# Altium schematic symbol library CHXXX.schlib: 635 symbols (part 5 of 9)
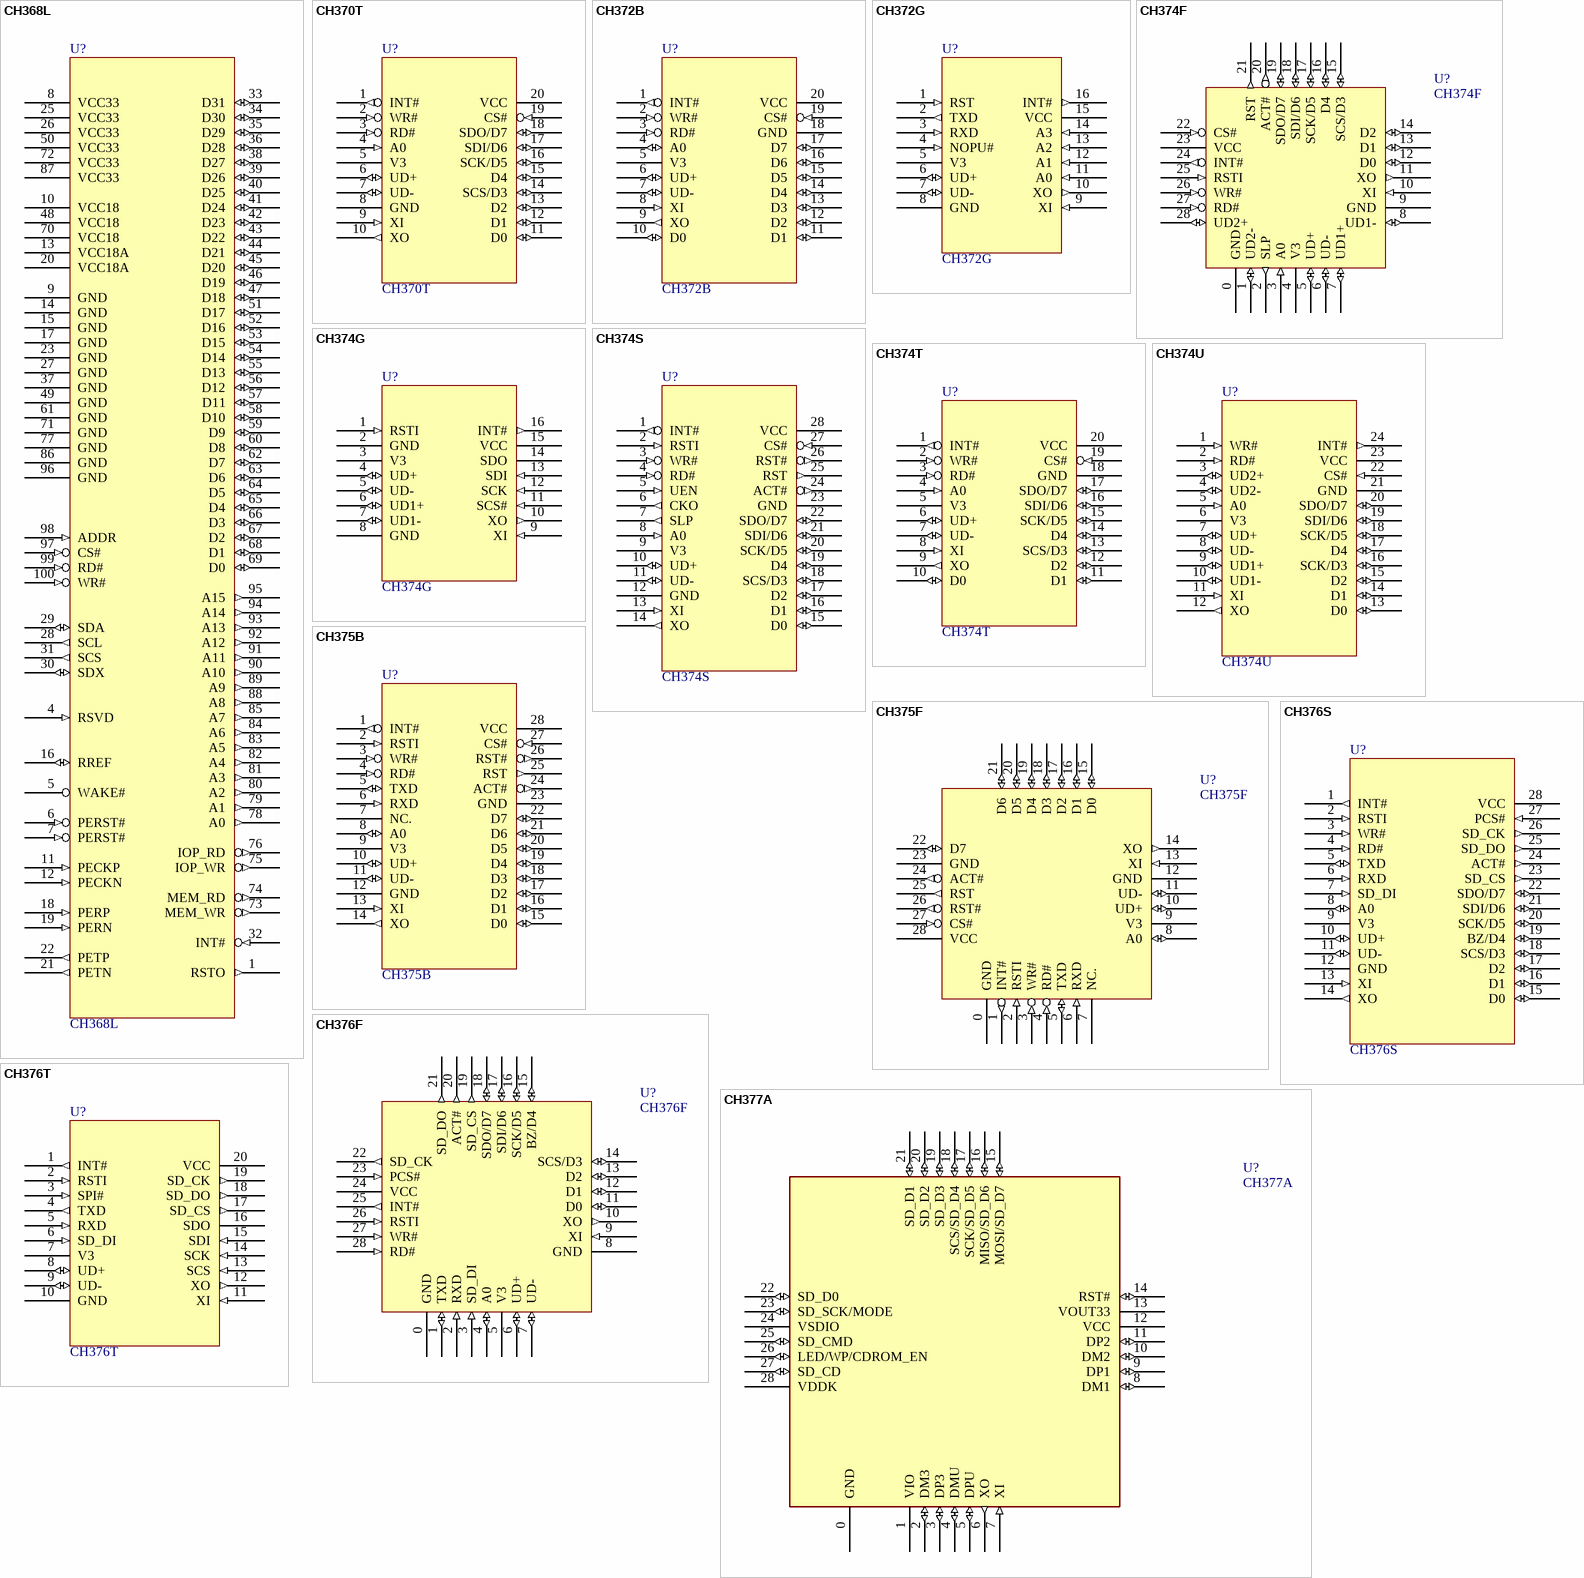
[diagram p90: symbols CH368L to CH377A]

## CH374F
designator U?
USB Host & Device / Slave for MCU, parallel / SPI, Embed 3 Hub
footprint QFN28_4X4
pins: 0 GND (power), 1 UD2- (io), 2 SLP (out), 3 A0 (in), 4 V3 (power), 5 UD+ (io), 6 UD- (io), 7 UD1+ (io), 8 UD1- (io), 9 GND (power), 10 XI (in), 11 XO (out), 12 D0 (io), 13 D1 (io), 14 D2 (io), 15 SCS/D3 (io), 16 D4 (io), 17 SCK/D5 (io), 18 SDI/D6 (io), 19 SDO/D7 (io), 20 ACT# (out), 21 RST (out), 22 CS# (in), 23 VCC (power), 24 INT# (out), 25 RSTI (in), 26 WR# (in), 27 RD# (in), 28 UD2+ (io)

## CH374G
designator U?
USB Host & Device / Slave for MCU, SPI
footprint SOP16
pins: 1 RSTI (in), 2 GND (power), 3 V3 (power), 4 UD+ (io), 5 UD- (io), 6 UD1+ (io), 7 UD1- (io), 8 GND (power), 9 XI (in), 10 XO (out), 11 SCS# (in), 12 SCK (in), 13 SDI (in), 14 SDO (hiz), 15 VCC (power), 16 INT# (out)

## CH374S
designator U?
USB Host & Device / Slave for MCU, parallel / SPI
footprint SOP28
footprint DIP28
pins: 1 INT# (out), 2 RSTI (in), 3 WR# (in), 4 RD# (in), 5 UEN (in), 6 CKO (out), 7 SLP (out), 8 A0 (in), 9 V3 (power), 10 UD+ (io), 11 UD- (io), 12 GND (power), 13 XI (in), 14 XO (out), 15 D0 (io), 16 D1 (io), 17 D2 (io), 18 SCS/D3 (io), 19 D4 (io), 20 SCK/D5 (io), 21 SDI/D6 (io), 22 SDO/D7 (io), 23 GND (power), 24 ACT# (out), 25 RST (out), 26 RST# (out), 27 CS# (in), 28 VCC (power)

## CH374T
designator U?
USB Host & Device / Slave for MCU, parallel / SPI
footprint SSOP20
pins: 1 INT# (out), 2 WR# (in), 3 RD# (in), 4 A0 (in), 5 V3 (power), 6 UD+ (io), 7 UD- (io), 8 XI (in), 9 XO (out), 10 D0 (io), 11 D1 (io), 12 D2 (io), 13 SCS/D3 (io), 14 D4 (io), 15 SCK/D5 (io), 16 SDI/D6 (io), 17 SDO/D7 (io), 18 GND (power), 19 CS# (in), 20 VCC (power)

## CH374U
designator U?
USB Host & Device / Slave for MCU, parallel / SPI, Embed 3 Hub
footprint SSOP24
pins: 1 WR# (in), 2 RD# (in), 3 UD2+ (io), 4 UD2- (io), 5 A0 (in), 6 V3 (power), 7 UD+ (io), 8 UD- (io), 9 UD1+ (io), 10 UD1- (io), 11 XI (in), 12 XO (out), 13 D0 (io), 14 D1 (io), 15 D2 (io), 16 SCK/D3 (io), 17 D4 (io), 18 SCK/D5 (io), 19 SDI/D6 (io), 20 SDO/D7 (io), 21 GND (power), 22 CS# (in), 23 VCC (power), 24 INT# (out)

## CH375B
designator U?
USB Host & Device / Slave for MCU, parallel / UART Serial
footprint SOP28
footprint TSSOP28
footprint DIP28
pins: 1 INT# (out), 2 RSTI (in), 3 WR# (in), 4 RD# (in), 5 TXD (io), 6 RXD (in), 7 NC., 8 A0 (io), 9 V3 (power), 10 UD+ (io), 11 UD- (io), 12 GND (power), 13 XI (in), 14 XO (out), 15 D0 (io), 16 D1 (io), 17 D2 (io), 18 D3 (io), 19 D4 (io), 20 D5 (io), 21 D6 (io), 22 D7 (io), 23 GND (power), 24 ACT# (out), 25 RST (out), 26 RST# (out), 27 CS# (in), 28 VCC (power)

## CH375F
designator U?
USB Host & Device / Slave for MCU, parallel / UART Serial
footprint QFN28_4X4
pins: 0 GND (power), 1 INT# (out), 2 RSTI (in), 3 WR# (in), 4 RD# (in), 5 TXD (io), 6 RXD (in), 7 NC., 8 A0 (io), 9 V3 (power), 10 UD+ (io), 11 UD- (io), 12 GND (power), 13 XI (in), 14 XO (out), 15 D0 (io), 16 D1 (io), 17 D2 (io), 18 D3 (io), 19 D4 (io), 20 D5 (io), 21 D6 (io), 22 D7 (io), 23 GND (power), 24 ACT# (out), 25 RST (out), 26 RST# (out), 27 CS# (in), 28 VCC (power)

## CH376F
designator U?
USB Host and SD card Host with File System & USB Device for MCU, parallel / SPI / UART Serial
footprint QFN28_4X4
pins: 0 GND (power), 1 TXD (io), 2 RXD (in), 3 SD_DI (in), 4 A0 (io), 5 V3 (power), 6 UD+ (io), 7 UD- (io), 8 GND (power), 9 XI (in), 10 XO (out), 11 D0 (io), 12 D1 (io), 13 D2 (io), 14 SCS/D3 (io), 15 BZ/D4 (io), 16 SCK/D5 (io), 17 SDI/D6 (io), 18 SDO/D7 (io), 19 SD_CS (out), 20 ACT# (out), 21 SD_DO (out), 22 SD_CK (out), 23 PCS# (in), 24 VCC (power), 25 INT# (out), 26 RSTI (in), 27 WR# (in), 28 RD# (in)

## CH376S
designator U?
USB Host and SD card Host with File System & USB Device for MCU, parallel / SPI / UART Serial
footprint SOP28
footprint DIP28
pins: 1 INT# (out), 2 RSTI (in), 3 WR# (in), 4 RD# (in), 5 TXD (io), 6 RXD (in), 7 SD_DI (in), 8 A0 (io), 9 V3 (power), 10 UD+ (io), 11 UD- (io), 12 GND (power), 13 XI (in), 14 XO (out), 15 D0 (io), 16 D1 (io), 17 D2 (io), 18 SCS/D3 (io), 19 BZ/D4 (io), 20 SCK/D5 (io), 21 SDI/D6 (io), 22 SDO/D7 (io), 23 SD_CS (out), 24 ACT# (out), 25 SD_DO (out), 26 SD_CK (out), 27 PCS# (in), 28 VCC (power)

## CH376T
designator U?
USB Host and SD card Host with File System & USB Device for MCU, SPI / UART Serial
footprint SSOP20
pins: 1 INT# (out), 2 RSTI (in), 3 SPI# (in), 4 TXD (out), 5 RXD (in), 6 SD_DI (in), 7 V3 (power), 8 UD+ (io), 9 UD- (io), 10 GND (power), 11 XI (in), 12 XO (out), 13 SCS (in), 14 SCK (in), 15 SDI (in), 16 SDO (hiz), 17 SD_CS (out), 18 SD_DO (out), 19 SD_CK (out), 20 VCC (power)

## CH377A
designator U?
USB SD card Reader & 3 ports USB 2.0 HS Hub
footprint QFN28_4X4 (Footprint not found)
pins: 0 GND (power), 1 VIO (power), 2 DM3 (io), 3 DP3 (io), 4 DMU (io), 5 DPU (io), 6 XO (out), 7 XI (in), 8 DM1 (io), 9 DP1 (io), 10 DM2 (io), 11 DP2 (io), 12 VCC (power), 13 VOUT33 (power), 14 RST# (io), 15 MOSI/SD_D7 (io), 16 MISO/SD_D6 (io), 17 SCK/SD_D5 (io), 18 SCS/SD_D4 (io), 19 SD_D3 (io), 20 SD_D2 (io), 21 SD_D1 (io), 22 SD_D0 (io), 23 SD_SCK/MODE (io), 24 VSDIO (power), 25 SD_CMD (io), 26 LED/WP/CDROM_EN (io), 27 SD_CD (io), 28 VDDK (power)

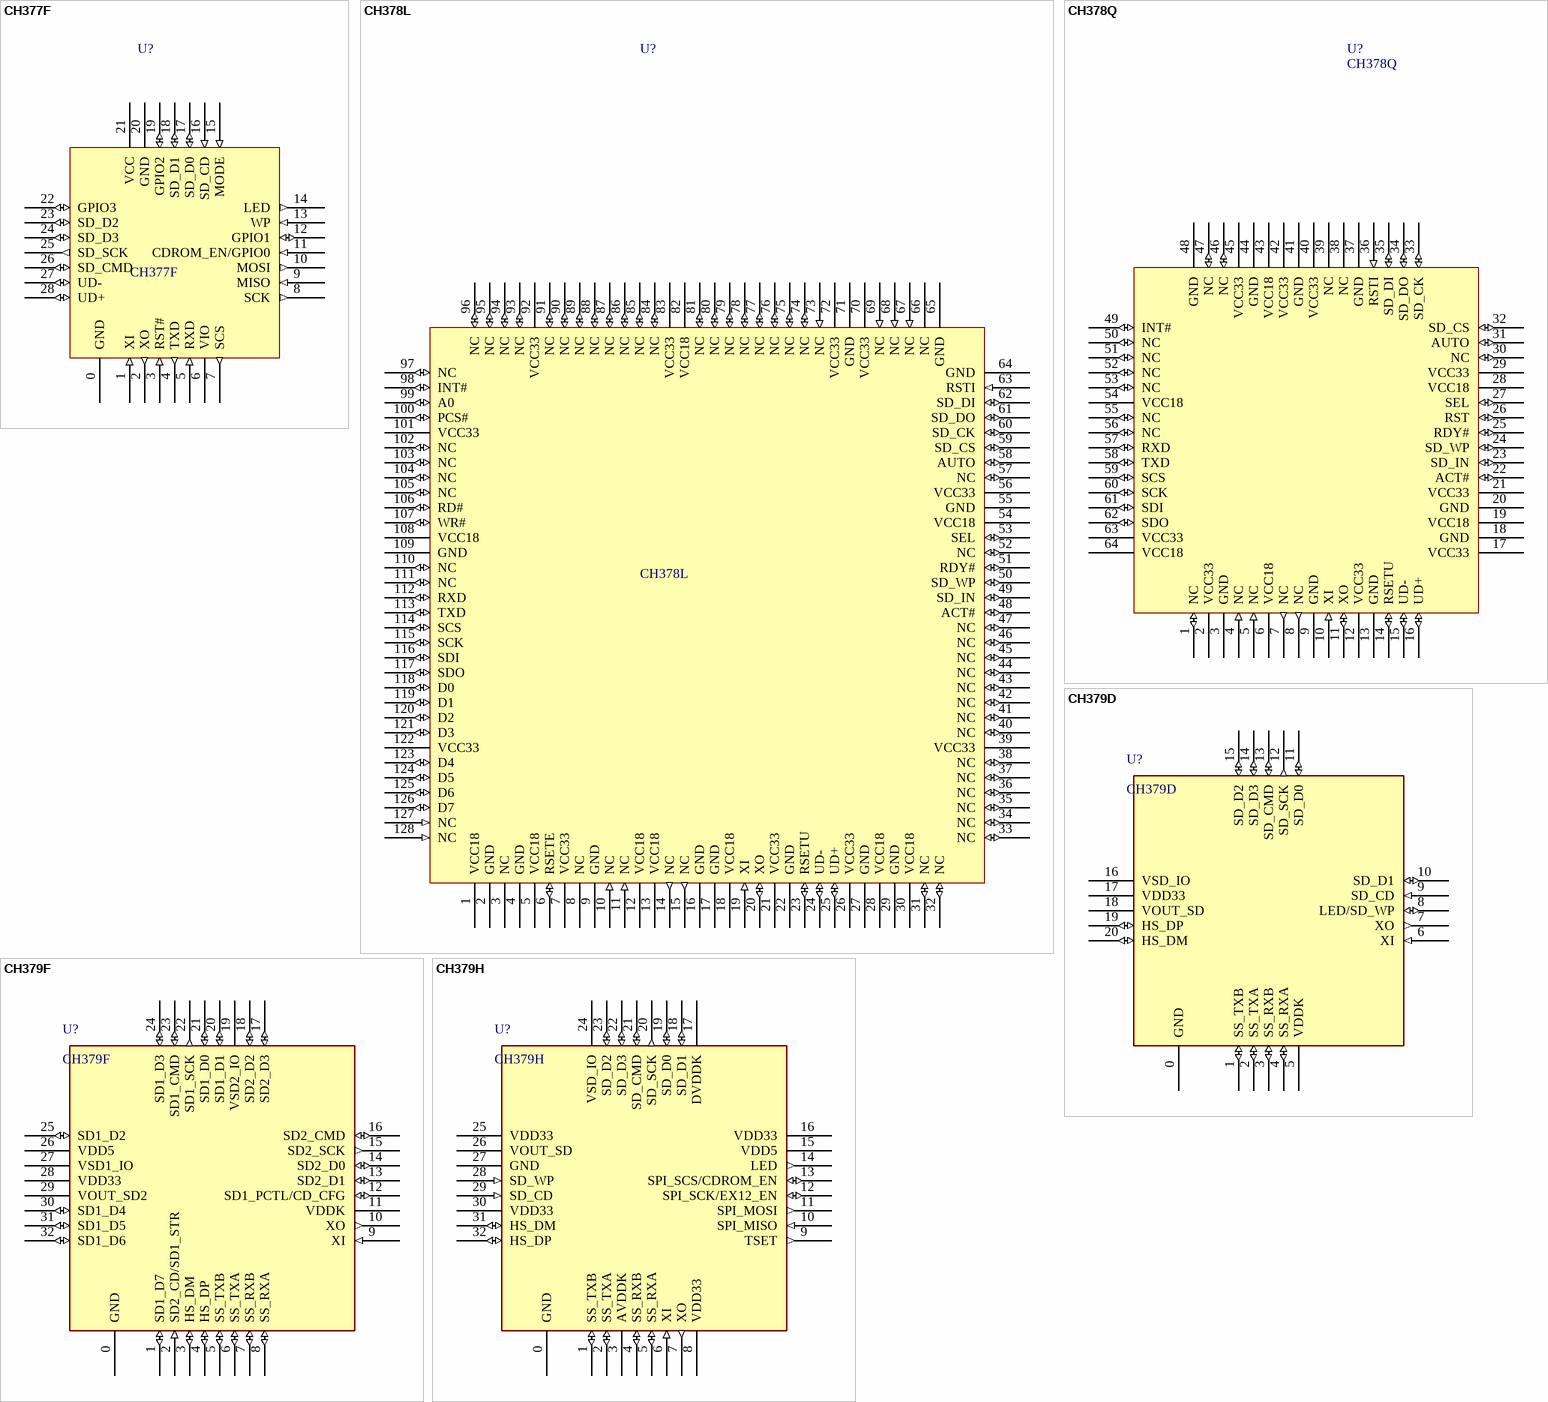
[diagram p37: symbols CH377F to CH379H]

## CH377F
designator U?
USB SD card Reader
footprint QFN28_4X4
pins: 0 GND (power), 1 XI (in), 2 XO (out), 3 RST# (in), 4 TXD (out), 5 RXD (in), 6 VIO (power), 7 SCS (out), 8 SCK (out), 9 MISO (in), 10 MOSI (out), 11 CDROM_EN/GPIO0 (in), 12 GPIO1 (io), 13 WP (in), 14 LED (out), 15 MODE (in), 16 SD_CD (in), 17 SD_D0 (io), 18 SD_D1 (io), 19 GPIO2 (io), 20 GND (power), 21 VCC (power), 22 GPIO3 (io), 23 SD_D2 (io), 24 SD_D3 (io), 25 SD_SCK (out), 26 SD_CMD (io), 27 UD- (io), 28 UD+ (io)

## CH378L
designator U?
USB2.0 Host with File System & USB Device for MCU, parallel / SPI / UART Serial
footprint LQFP128
pins: 1 VCC18 (power), 2 GND (power), 3 NC, 4 GND (power), 5 VCC18 (power), 6 RSETE (io), 7 VCC33 (power), 8 NC, 9 GND (power), 10 NC (in), 11 NC (in), 12 VCC18 (power), 13 VCC18 (power), 14 NC (out), 15 NC (out), 16 GND (power), 17 GND (power), 18 VCC18 (power), 19 XI (in), 20 XO (io), 21 VCC33 (power), 22 GND (power), 23 RSETU (io), 24 UD- (io), 25 UD+ (io), 26 VCC33 (power), 27 GND (power), 28 VCC18 (power), 29 GND (power), 30 VCC18 (power), 31 NC (io), 32 NC (io), 33 NC (io), 34 NC (io), 35 NC (io), 36 NC (io), 37 NC (io), 38 NC (io), 39 VCC33 (power), 40 NC (io), 41 NC (io), 42 NC (io), 43 NC (io), 44 NC (io), 45 NC (io), 46 NC (io), 47 NC (io), 48 ACT# (io), 49 SD_IN (io), 50 SD_WP (io), 51 RDY# (io), 52 NC (io), 53 SEL (io), 54 VCC18 (power), 55 GND (power), 56 VCC33 (power), 57 NC (io), 58 AUTO (io), 59 SD_CS (io), 60 SD_CK (io), 61 SD_DO (io), 62 SD_DI (io), 63 RSTI (in), 64 GND (power), 65 GND (power), 66 NC (power), 67 NC (in), 68 NC (in), 69 NC (in), 70 VCC33 (power), 71 GND (power), 72 VCC33 (power), 73 NC (in), 74 NC (io), 75 NC (io), 76 NC (io), 77 NC (io), 78 NC (io), 79 NC (io), 80 NC (io), 81 NC (io), 82 VCC18 (power), 83 VCC33 (power), 84 NC (io), 85 NC (io), 86 NC (io), 87 NC (io), 88 NC (io), 89 NC (io), 90 NC (io), 91 NC (io), 92 VCC33 (power), 93 NC (io), 94 NC (io), 95 NC (io), 96 NC (io), 97 NC (io), 98 INT# (io), 99 A0 (io), 100 PCS# (io), 101 VCC33 (power), 102 NC (io), 103 NC (io), 104 NC (io), 105 NC (io), 106 RD# (io), 107 WR# (io), 108 VCC18 (power), 109 GND (power), 110 NC (io), 111 NC (io), 112 RXD (io), 113 TXD (io), 114 SCS (io), 115 SCK (io), 116 SDI (io), 117 SDO (io), 118 D0 (io), 119 D1 (io), 120 D2 (io), 121 D3 (io), 122 VCC33 (power), 123 D4 (io), 124 D5 (io), 125 D6 (io), 126 D7 (io), 127 NC (in), 128 NC (in)

## CH378Q
designator U?
USB2.0 Host with File System & USB Device for MCU, parallel / SPI / UART Serial
footprint LQFP64M_10X10
pins: 1 NC (io), 2 VCC33 (power), 3 GND (power), 4 NC (in), 5 NC (in), 6 VCC18 (power), 7 NC (out), 8 NC (out), 9 GND (power), 10 XI (in), 11 XO (io), 12 VCC33 (power), 13 GND (power), 14 RSETU (io), 15 UD- (io), 16 UD+ (io), 17 VCC33 (power), 18 GND (power), 19 VCC18 (power), 20 GND (power), 21 VCC33 (power), 22 ACT# (io), 23 SD_IN (io), 24 SD_WP (io), 25 RDY# (io), 26 RST (io), 27 SEL (io), 28 VCC18 (power), 29 VCC33 (power), 30 NC (io), 31 AUTO (io), 32 SD_CS (io), 33 SD_CK (io), 34 SD_DO (io), 35 SD_DI (io), 36 RSTI (in), 37 GND (power), 38 NC (power), 39 NC, 40 VCC33 (power), 41 GND (power), 42 VCC33 (power), 43 VCC18 (power), 44 GND (power), 45 VCC33 (power), 46 NC (io), 47 NC (io), 48 GND (power), 49 INT# (io), 50 NC (io), 51 NC (io), 52 NC (io), 53 NC (io), 54 VCC18 (power), 55 NC (io), 56 NC (io), 57 RXD (io), 58 TXD (io), 59 SCS (io), 60 SCK (io), 61 SDI (io), 62 SDO (io), 63 VCC33 (power), 64 VCC18 (power)

## CH379D
designator U?
USB 3.0 Card Reader
footprint QFN20_3X3
pins: 0 GND (power), 1 SS_TXB (io), 2 SS_TXA (io), 3 SS_RXB (io), 4 SS_RXA (io), 5 VDDK (power), 6 XI (in), 7 XO (out), 8 LED/SD_WP (io), 9 SD_CD (in), 10 SD_D1 (io), 11 SD_D0 (io), 12 SD_SCK (out), 13 SD_CMD (io), 14 SD_D3 (io), 15 SD_D2 (io), 16 VSD_IO (power), 17 VDD33 (power), 18 VOUT_SD (power), 19 HS_DP (io), 20 HS_DM (io)

## CH379F
designator U?
USB 3.0 Card Reader
footprint QFN32_4X4
pins: 0 GND (power), 1 SD1_D7 (io), 2 SD2_CD/SD1_STR (in), 3 HS_DM (io), 4 HS_DP (io), 5 SS_TXB (io), 6 SS_TXA (io), 7 SS_RXB (io), 8 SS_RXA (io), 9 XI (in), 10 XO (out), 11 VDDK (power), 12 SD1_PCTL/CD_CFG (io), 13 SD2_D1 (io), 14 SD2_D0 (io), 15 SD2_SCK (out), 16 SD2_CMD (io), 17 SD2_D3 (io), 18 SD2_D2 (io), 19 VSD2_IO (power), 20 SD1_D1 (io), 21 SD1_D0 (io), 22 SD1_SCK (out), 23 SD1_CMD (io), 24 SD1_D3 (io), 25 SD1_D2 (io), 26 VDD5 (power), 27 VSD1_IO (power), 28 VDD33 (power), 29 VOUT_SD2 (power), 30 SD1_D4 (io), 31 SD1_D5 (io), 32 SD1_D6 (io)

## CH379H
designator U?
USB 3.0 Card Reader
footprint QFN32_5X5
pins: 0 GND (power), 1 SS_TXB (io), 2 SS_TXA (io), 3 AVDDK (power), 4 SS_RXB (io), 5 SS_RXA (io), 6 XI (in), 7 XO (out), 8 VDD33 (power), 9 TSET (out), 10 SPI_MISO (in), 11 SPI_MOSI (out), 12 SPI_SCK/EX12_EN (io), 13 SPI_SCS/CDROM_EN (io), 14 LED (out), 15 VDD5 (power), 16 VDD33 (power), 17 DVDDK (power), 18 SD_D1 (io), 19 SD_D0 (io), 20 SD_SCK (out), 21 SD_CMD (io), 22 SD_D3 (io), 23 SD_D2 (io), 24 VSD_IO (power), 25 VDD33 (power), 26 VOUT_SD (power), 27 GND (power), 28 SD_WP (in), 29 SD_CD (in), 30 VDD33 (power), 31 HS_DM (io), 32 HS_DP (io)

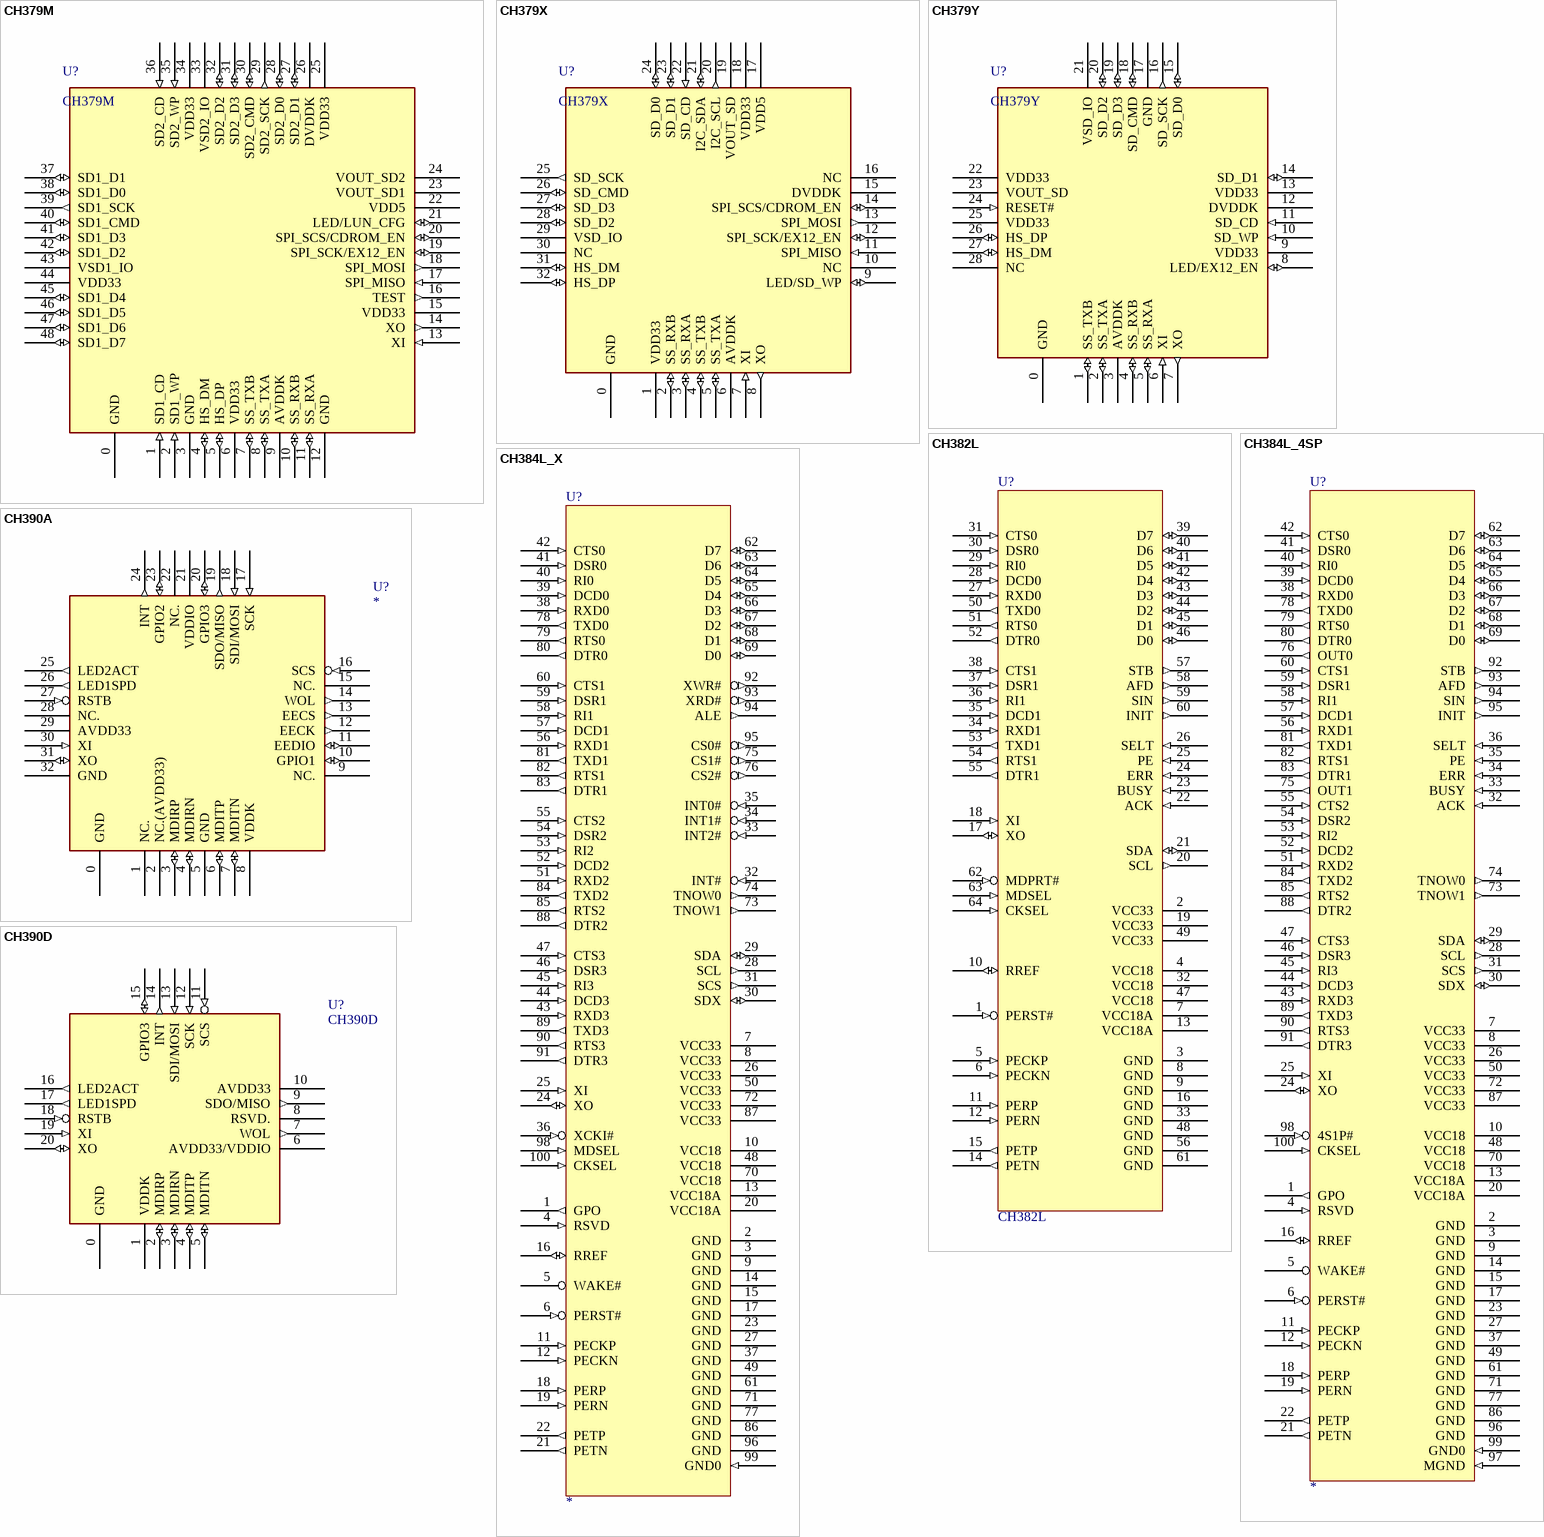
[diagram p38: symbols CH379M to CH390D]

## CH379M
designator U?
USB 3.0 Card Reader
footprint QFN48_7X7
pins: 0 GND (power), 1 SD1_CD (in), 2 SD1_WP (in), 3 GND (power), 4 HS_DM (io), 5 HS_DP (io), 6 VDD33 (power), 7 SS_TXB (io), 8 SS_TXA (io), 9 AVDDK (power), 10 SS_RXB (io), 11 SS_RXA (io), 12 GND (power), 13 XI (in), 14 XO (out), 15 VDD33 (power), 16 TEST (out), 17 SPI_MISO (in), 18 SPI_MOSI (out), 19 SPI_SCK/EX12_EN (io), 20 SPI_SCS/CDROM_EN (io), 21 LED/LUN_CFG (io), 22 VDD5 (power), 23 VOUT_SD1 (power), 24 VOUT_SD2 (power), 25 VDD33 (power), 26 DVDDK (power), 27 SD2_D1 (io), 28 SD2_D0 (io), 29 SD2_SCK (out), 30 SD2_CMD (io), 31 SD2_D3 (io), 32 SD2_D2 (io), 33 VSD2_IO (power), 34 VDD33 (power), 35 SD2_WP (in), 36 SD2_CD (in), 37 SD1_D1 (io), 38 SD1_D0 (io), 39 SD1_SCK (out), 40 SD1_CMD (io), 41 SD1_D3 (io), 42 SD1_D2 (io), 43 VSD1_IO (power), 44 VDD33 (power), 45 SD1_D4 (io), 46 SD1_D5 (io), 47 SD1_D6 (io), 48 SD1_D7 (io)

## CH379X
designator U?
USB 3.0 Card Reader
footprint QFN32_5X5
pins: 0 GND (power), 1 VDD33 (power), 2 SS_RXB (io), 3 SS_RXA (io), 4 SS_TXB (io), 5 SS_TXA (io), 6 AVDDK (power), 7 XI (in), 8 XO (out), 9 LED/SD_WP (io), 10 NC, 11 SPI_MISO (in), 12 SPI_SCK/EX12_EN (io), 13 SPI_MOSI (out), 14 SPI_SCS/CDROM_EN (io), 15 DVDDK (power), 16 NC, 17 VDD5 (power), 18 VDD33 (power), 19 VOUT_SD (power), 20 I2C_SCL (out), 21 I2C_SDA (io), 22 SD_CD (in), 23 SD_D1 (io), 24 SD_D0 (io), 25 SD_SCK (out), 26 SD_CMD (io), 27 SD_D3 (io), 28 SD_D2 (io), 29 VSD_IO (power), 30 NC, 31 HS_DM (io), 32 HS_DP (io)

## CH379Y
designator U?
USB 3.0 Card Reader
footprint QFN28_4X4
pins: 0 GND (power), 1 SS_TXB (io), 2 SS_TXA (io), 3 AVDDK (power), 4 SS_RXB (io), 5 SS_RXA (io), 6 XI (in), 7 XO (out), 8 LED/EX12_EN (io), 9 VDD33 (power), 10 SD_WP (in), 11 SD_CD (in), 12 DVDDK (power), 13 VDD33 (power), 14 SD_D1 (io), 15 SD_D0 (io), 16 SD_SCK (out), 17 GND (power), 18 SD_CMD (io), 19 SD_D3 (io), 20 SD_D2 (io), 21 VSD_IO (power), 22 VDD33 (power), 23 VOUT_SD (power), 24 RESET# (in), 25 VDD33 (power), 26 HS_DP (io), 27 HS_DM (io), 28 NC

## CH382L
designator U?
PCIe to 2S1P: Print Port / Parallel and Dual 16C550 UART with 256 byte FIFO
footprint LQFP64
pins: 1 PERST# (in), 2 VCC33 (power), 3 GND (power), 4 VCC18 (power), 5 PECKP (in), 6 PECKN (in), 7 VCC18A (power), 8 GND (power), 9 GND (power), 10 RREF (io), 11 PERP (in), 12 PERN (in), 13 VCC18A (power), 14 PETN (out), 15 PETP (out), 16 GND (power), 17 XO (io), 18 XI (in), 19 VCC33 (power), 20 SCL (out), 21 SDA (io), 22 ACK (in), 23 BUSY (in), 24 ERR (in), 25 PE (in), 26 SELT (in), 27 RXD0 (in), 28 DCD0 (in), 29 RI0 (in), 30 DSR0 (in), 31 CTS0 (in), 32 VCC18 (power), 33 GND (power), 34 RXD1 (in), 35 DCD1 (in), 36 RI1 (in), 37 DSR1 (in), 38 CTS1 (in), 39 D7 (io), 40 D6 (io), 41 D5 (io), 42 D4 (io), 43 D3 (io), 44 D2 (io), 45 D1 (io), 46 D0 (io), 47 VCC18 (power), 48 GND (power), 49 VCC33 (power), 50 TXD0 (out), 51 RTS0 (out), 52 DTR0 (out), 53 TXD1 (out), 54 RTS1 (out), 55 DTR1 (out), 56 GND (power), 57 STB (out), 58 AFD (out), 59 SIN (out), 60 INIT (out), 61 GND (power), 62 MDPRT# (in), 63 MDSEL (in), 64 CKSEL (in)

## CH384L_4SP
designator U?
PCIe to 4S1P: Print Port / Parallel and Quad 16C550 UART with 256 byte FIFO
footprint LQFP100
pins: 1 GPO (out), 2 GND (power), 3 GND (power), 4 RSVD (in), 5 WAKE# (oc), 6 PERST# (in), 7 VCC33 (power), 8 VCC33 (power), 9 GND (power), 10 VCC18 (power), 11 PECKP (in), 12 PECKN (in), 13 VCC18A (power), 14 GND (power), 15 GND (power), 16 RREF (io), 17 GND (power), 18 PERP (in), 19 PERN (in), 20 VCC18A (power), 21 PETN (out), 22 PETP (out), 23 GND (power), 24 XO (io), 25 XI (in), 26 VCC33 (power), 27 GND (power), 28 SCL (out), 29 SDA (io), 30 SDX (io), 31 SCS (out), 32 ACK (in), 33 BUSY (in), 34 ERR (in), 35 PE (in), 36 SELT (in), 37 GND (power), 38 RXD0 (in), 39 DCD0 (in), 40 RI0 (in), 41 DSR0 (in), 42 CTS0 (in), 43 RXD3 (in), 44 DCD3 (in), 45 RI3 (in), 46 DSR3 (in), 47 CTS3 (in), 48 VCC18 (power), 49 GND (power), 50 VCC33 (power), 51 RXD2 (in), 52 DCD2 (in), 53 RI2 (in), 54 DSR2 (in), 55 CTS2 (in), 56 RXD1 (in), 57 DCD1 (in), 58 RI1 (in), 59 DSR1 (in), 60 CTS1 (in), 61 GND (power), 62 D7 (io), 63 D6 (io), 64 D5 (io), 65 D4 (io), 66 D3 (io), 67 D2 (io), 68 D1 (io), 69 D0 (io), 70 VCC18 (power), 71 GND (power), 72 VCC33 (power), 73 TNOW1 (out), 74 TNOW0 (out), 75 OUT1 (out), 76 OUT0 (out), 77 GND (power), 78 TXD0 (out), 79 RTS0 (out), 80 DTR0 (out), 81 TXD1 (out), 82 RTS1 (out), 83 DTR1 (out), 84 TXD2 (out), 85 RTS2 (out), 86 GND (power), 87 VCC33 (power), 88 DTR2 (out), 89 TXD3 (out), 90 RTS3 (out), 91 DTR3 (out), 92 STB (out), 93 AFD (out), 94 SIN (out), 95 INIT (out), 96 GND (power), 97 MGND (in), 98 4S1P# (in), 99 GND0 (in), 100 CKSEL (in)

## CH384L_X
designator U?
PCIe to 8S or 28S: External 8 or 24*UART
footprint LQFP100
pins: 1 GPO (out), 2 GND (power), 3 GND (power), 4 RSVD (in), 5 WAKE# (oc), 6 PERST# (in), 7 VCC33 (power), 8 VCC33 (power), 9 GND (power), 10 VCC18 (power), 11 PECKP (in), 12 PECKN (in), 13 VCC18A (power), 14 GND (power), 15 GND (power), 16 RREF (io), 17 GND (power), 18 PERP (in), 19 PERN (in), 20 VCC18A (power), 21 PETN (out), 22 PETP (out), 23 GND (power), 24 XO (io), 25 XI (in), 26 VCC33 (power), 27 GND (power), 28 SCL (out), 29 SDA (io), 30 SDX (io), 31 SCS (out), 32 INT# (in), 33 INT2# (in), 34 INT1# (in), 35 INT0# (in), 36 XCKI# (in), 37 GND (power), 38 RXD0 (in), 39 DCD0 (in), 40 RI0 (in), 41 DSR0 (in), 42 CTS0 (in), 43 RXD3 (in), 44 DCD3 (in), 45 RI3 (in), 46 DSR3 (in), 47 CTS3 (in), 48 VCC18 (power), 49 GND (power), 50 VCC33 (power), 51 RXD2 (in), 52 DCD2 (in), 53 RI2 (in), 54 DSR2 (in), 55 CTS2 (in), 56 RXD1 (in), 57 DCD1 (in), 58 RI1 (in), 59 DSR1 (in), 60 CTS1 (in), 61 GND (power), 62 D7 (io), 63 D6 (io), 64 D5 (io), 65 D4 (io), 66 D3 (io), 67 D2 (io), 68 D1 (io), 69 D0 (io), 70 VCC18 (power), 71 GND (power), 72 VCC33 (power), 73 TNOW1 (out), 74 TNOW0 (out), 75 CS1# (out), 76 CS2# (out), 77 GND (power), 78 TXD0 (out), 79 RTS0 (out), 80 DTR0 (out), 81 TXD1 (out), 82 RTS1 (out), 83 DTR1 (out), 84 TXD2 (out), 85 RTS2 (out), 86 GND (power), 87 VCC33 (power), 88 DTR2 (out), 89 TXD3 (out), 90 RTS3 (out), 91 DTR3 (out), 92 XWR# (out), 93 XRD# (out), 94 ALE (out), 95 CS0# (out), 96 GND (power), 98 MDSEL (in), 99 GND0 (in), 100 CKSEL (in)

## CH390A
designator U?
SPI to 10/100M Ethernet MAC & PHY
footprint QFN32_5X5
pins: 0 GND (power), 1 NC., 2 NC.(AVDD33), 3 MDIRP (io), 4 MDIRN (io), 5 GND (power), 6 MDITP (io), 7 MDITN (io), 8 VDDK (power), 9 NC., 10 GPIO1 (io), 11 EEDIO (io), 12 EECK (out), 13 EECS (out), 14 WOL (out), 15 NC., 16 SCS (in), 17 SCK (in), 18 SDI/MOSI (in), 19 SDO/MISO (out), 20 GPIO3 (io), 21 VDDIO (power), 22 NC., 23 GPIO2 (io), 24 INT (out), 25 LED2ACT (out), 26 LED1SPD (out), 27 RSTB (in), 28 NC., 29 AVDD33 (power), 30 XI (in), 31 XO (io), 32 GND (power)

## CH390D
designator U?
SPI to 10/100M Ethernet MAC & PHY
footprint QFN20_3X3
pins: 0 GND (power), 1 VDDK (power), 2 MDIRP (io), 3 MDIRN (io), 4 MDITP (io), 5 MDITN (io), 6 AVDD33/VDDIO (power), 7 WOL (out), 8 RSVD., 9 SDO/MISO (out), 10 AVDD33 (power), 11 SCS (in), 12 SCK (in), 13 SDI/MOSI (in), 14 INT (out), 15 GPIO3 (io), 16 LED2ACT (out), 17 LED1SPD (out), 18 RSTB (in), 19 XI (in), 20 XO (io)

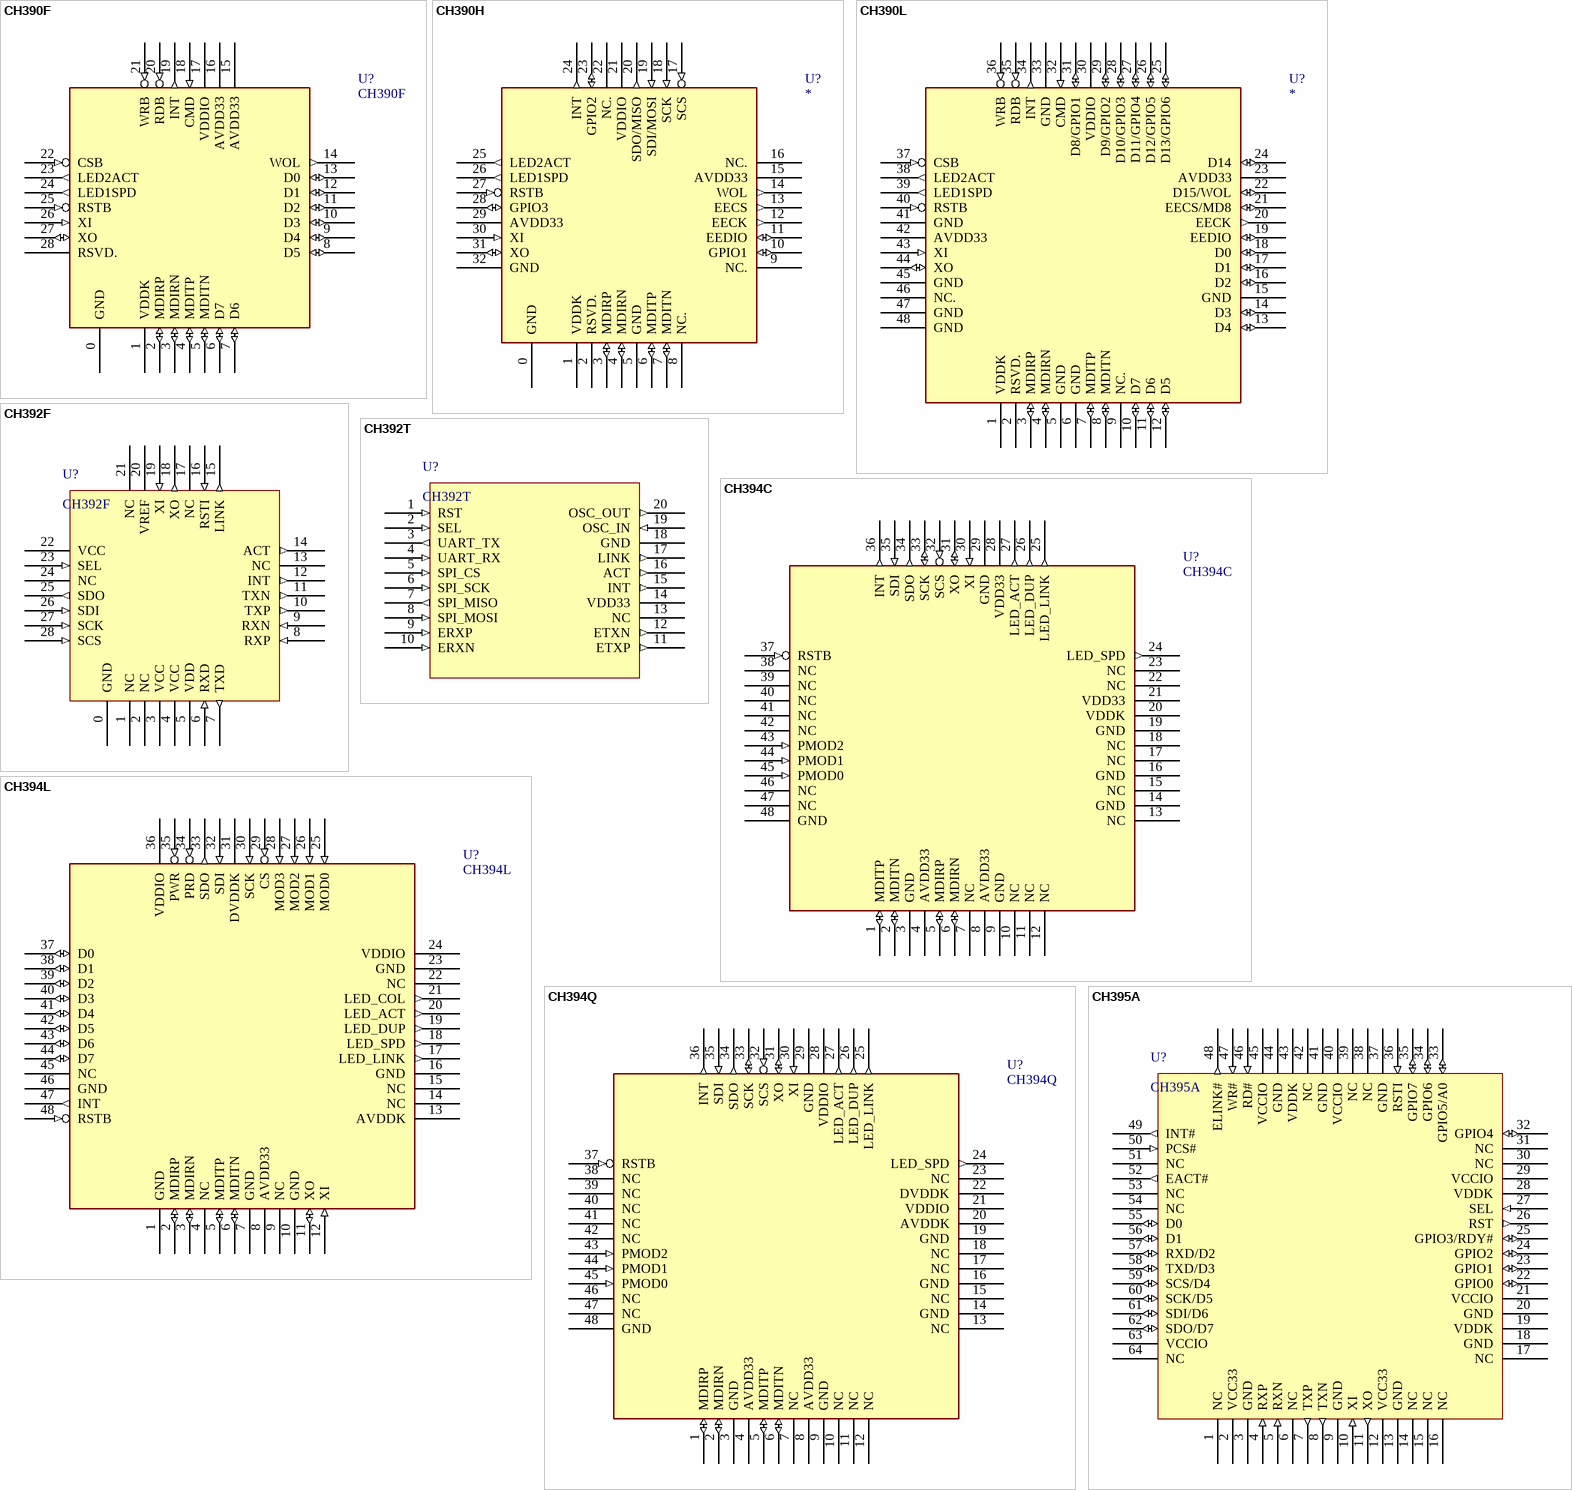
[diagram p39: symbols CH390F to CH395A]

## CH390F
designator U?
Parallel to 10/100M Ethernet MAC & PHY
footprint QFN28_4X4
pins: 0 GND (power), 1 VDDK (power), 2 MDIRP (io), 3 MDIRN (io), 4 MDITP (io), 5 MDITN (io), 6 D7 (io), 7 D6 (io), 8 D5 (io), 9 D4 (io), 10 D3 (io), 11 D2 (io), 12 D1 (io), 13 D0 (io), 14 WOL (out), 15 AVDD33 (power), 16 AVDD33 (power), 17 VDDIO (power), 18 CMD (in), 19 INT (out), 20 RDB (in), 21 WRB (in), 22 CSB (in), 23 LED2ACT (out), 24 LED1SPD (out), 25 RSTB (in), 26 XI (in), 27 XO (io), 28 RSVD.

## CH390H
designator U?
SPI to 10/100M Ethernet MAC & PHY
footprint QFN32_5X5
pins: 0 GND (power), 1 VDDK (power), 2 RSVD., 3 MDIRP (io), 4 MDIRN (io), 5 GND (power), 6 MDITP (io), 7 MDITN (io), 8 NC., 9 NC., 10 GPIO1 (io), 11 EEDIO (io), 12 EECK (out), 13 EECS (out), 14 WOL (out), 15 AVDD33 (power), 16 NC., 17 SCS (in), 18 SCK (in), 19 SDI/MOSI (in), 20 SDO/MISO (out), 21 VDDIO (power), 22 NC., 23 GPIO2 (io), 24 INT (out), 25 LED2ACT (out), 26 LED1SPD (out), 27 RSTB (in), 28 GPIO3 (io), 29 AVDD33 (power), 30 XI (in), 31 XO (io), 32 GND (power)

## CH390L
designator U?
Parallel to 10/100M Ethernet MAC & PHY
footprint LQFP48
pins: 1 VDDK (power), 2 RSVD., 3 MDIRP (io), 4 MDIRN (io), 5 GND (power), 6 GND (power), 7 MDITP (io), 8 MDITN (io), 9 NC., 10 D7 (io), 11 D6 (io), 12 D5 (io), 13 D4 (io), 14 D3 (io), 15 GND (power), 16 D2 (io), 17 D1 (io), 18 D0 (io), 19 EEDIO (io), 20 EECK (out), 21 EECS/MD8 (io), 22 D15/WOL (io), 23 AVDD33 (power), 24 D14 (io), 25 D13/GPIO6 (io), 26 D12/GPIO5 (io), 27 D11/GPIO4 (io), 28 D10/GPIO3 (io), 29 D9/GPIO2 (io), 30 VDDIO (power), 31 D8/GPIO1 (io), 32 CMD (in), 33 GND (power), 34 INT (out), 35 RDB (in), 36 WRB (in), 37 CSB (in), 38 LED2ACT (out), 39 LED1SPD (out), 40 RSTB (in), 41 GND (power), 42 AVDD33 (power), 43 XI (in), 44 XO (io), 45 GND (power), 46 NC., 47 GND (power), 48 GND (power)

## CH392F
designator U?
TCP/IP embedded 10M ethernet controller for MCU connecting internet, UART/SPI
footprint QFN28_4X4
pins: 0 GND (power), 1 NC, 2 NC, 3 VCC (power), 4 VCC (power), 5 VDD (power), 6 RXD (in), 7 TXD (out), 8 RXP (in), 9 RXN (in), 10 TXP (out), 11 TXN (out), 12 INT (out), 13 NC, 14 ACT (out), 15 LINK (out), 16 RSTI (in), 17 NC, 18 XO (out), 19 XI (in), 20 VREF (hiz), 21 NC, 22 VCC (power), 23 SEL (in), 24 NC, 25 SDO (out), 26 SDI (in), 27 SCK (in), 28 SCS (in)

## CH392T
designator U?
TCP/IP embedded 10M ethernet controller for MCU connecting internet, UART/SPI
footprint TSSOP20
pins: 1 RST (in), 2 SEL (in), 3 UART_TX (out), 4 UART_RX (in), 5 SPI_CS (in), 6 SPI_SCK (in), 7 SPI_MISO (out), 8 SPI_MOSI (in), 9 ERXP (in), 10 ERXN (in), 11 ETXP (out), 12 ETXN (out), 13 NC, 14 VDD33 (power), 15 INT (out), 16 ACT (out), 17 LINK (out), 18 GND (power), 19 OSC_IN (in), 20 OSC_OUT (out)

## CH394C
designator U?
TCP/IP embedded 10M/100Mbps ethernet controller for MCU connecting internet
footprint LQFP48 (Footprint not found)
pins: 1 MDITP (io), 2 MDITN (io), 3 GND (power), 4 AVDD33 (power), 5 MDIRP (io), 6 MDIRN (io), 7 NC, 8 AVDD33 (power), 9 GND (power), 10 NC, 11 NC, 12 NC, 13 NC, 14 GND (power), 15 NC, 16 GND (power), 17 NC, 18 NC, 19 GND (power), 20 VDDK (power), 21 VDD33 (power), 22 NC, 23 NC, 24 LED_SPD (out), 25 LED_LINK (out), 26 LED_DUP (out), 27 LED_ACT (out), 28 VDD33 (power), 29 GND (power), 30 XI (in), 31 XO (io), 32 SCS (in), 33 SCK (io), 34 SDO (out), 35 SDI (in), 36 INT (out), 37 RSTB (in), 38 NC, 39 NC, 40 NC, 41 NC, 42 NC, 43 PMOD2 (in), 44 PMOD1 (in), 45 PMOD0 (in), 46 NC, 47 NC, 48 GND (power)

## CH394L
designator U?
TCP/IP embedded 10M/100Mbps ethernet controller for MCU connecting internet
footprint LQFP48 (Footprint not found)
pins: 1 GND (power), 2 MDIRP (io), 3 MDIRN (io), 4 NC, 5 MDITP (io), 6 MDITN (io), 7 GND, 8 AVDD33 (power), 9 NC, 10 GND, 11 XO (io), 12 XI (in), 13 AVDDK (power), 14 NC, 15 NC, 16 GND (power), 17 LED_LINK (out), 18 LED_SPD (out), 19 LED_DUP (out), 20 LED_ACT (out), 21 LED_COL (out), 22 NC, 23 GND (power), 24 VDDIO (power), 25 MOD0 (in), 26 MOD1 (in), 27 MOD2 (in), 28 MOD3 (in), 29 CS (in), 30 SCK (in), 31 DVDDK (power), 32 SDI (in), 33 SDO (out), 34 PRD (in), 35 PWR (in), 36 VDDIO (power), 37 D0 (io), 38 D1 (io), 39 D2 (io), 40 D3 (io), 41 D4 (io), 42 D5 (io), 43 D6 (io), 44 D7 (io), 45 NC, 46 GND (power), 47 INT (out), 48 RSTB (in)

## CH394Q
designator U?
TCP/IP embedded 10M/100Mbps ethernet controller for MCU connecting internet
footprint LQFP48 (Footprint not found)
pins: 1 MDIRP (io), 2 MDIRN (io), 3 GND (power), 4 AVDD33 (power), 5 MDITP (io), 6 MDITN (io), 7 NC, 8 AVDD33 (power), 9 GND (power), 10 NC, 11 NC, 12 NC, 13 NC, 14 GND (power), 15 NC, 16 GND (power), 17 NC, 18 NC, 19 GND (power), 20 AVDDK (power), 21 VDDIO (power), 22 DVDDK (power), 23 NC, 24 LED_SPD (out), 25 LED_LINK (out), 26 LED_DUP (out), 27 LED_ACT (out), 28 VDDIO (power), 29 GND (power), 30 XI (in), 31 XO (io), 32 SCS (in), 33 SCK (io), 34 SDO (out), 35 SDI (in), 36 INT (out), 37 RSTB (in), 38 NC, 39 NC, 40 NC, 41 NC, 42 NC, 43 PMOD2 (in), 44 PMOD1 (in), 45 PMOD0 (in), 46 NC, 47 NC, 48 GND (power)

## CH395A
designator U?
TCP/IP embedded 100Mbps ethernet controller for MCU connecting internet
footprint LQFP64M_10x10 (Footprint not found)
pins: 1 NC, 2 VCC33 (power), 3 GND, 4 RXP (in), 5 RXN (in), 6 NC, 7 TXP (out), 8 TXN (out), 9 GND (power), 10 XI (in), 11 XO (out), 12 VCC33 (power), 13 GND (power), 14 NC, 15 NC, 16 NC, 17 NC, 18 GND (power), 19 VDDK (power), 20 GND (power), 21 VCCIO (power), 22 GPIO0 (io), 23 GPIO1 (io), 24 GPIO2 (io), 25 GPIO3/RDY# (io), 26 RST (out), 27 SEL (in), 28 VDDK (power), 29 VCCIO (power), 30 NC, 31 NC, 32 GPIO4 (io), 33 GPIO5/A0 (io), 34 GPIO6 (io), 35 GPIO7 (io), 36 RSTI (in), 37 GND (power), 38 NC, 39 NC, 40 VCCIO (power), 41 GND (power), 42 NC, 43 VDDK (power), 44 GND (power), 45 VCCIO (power), 46 RD# (in), 47 WR# (in), 48 ELINK# (out), 49 INT# (out), 50 PCS# (in), 51 NC, 52 EACT# (out), 53 NC, 54 NC, 55 D0 (io), 56 D1 (io), 57 RXD/D2 (io), 58 TXD/D3 (io), 59 SCS/D4 (io), 60 SCK/D5 (io), 61 SDI/D6 (io), 62 SDO/D7 (io), 63 VCCIO (power), 64 NC

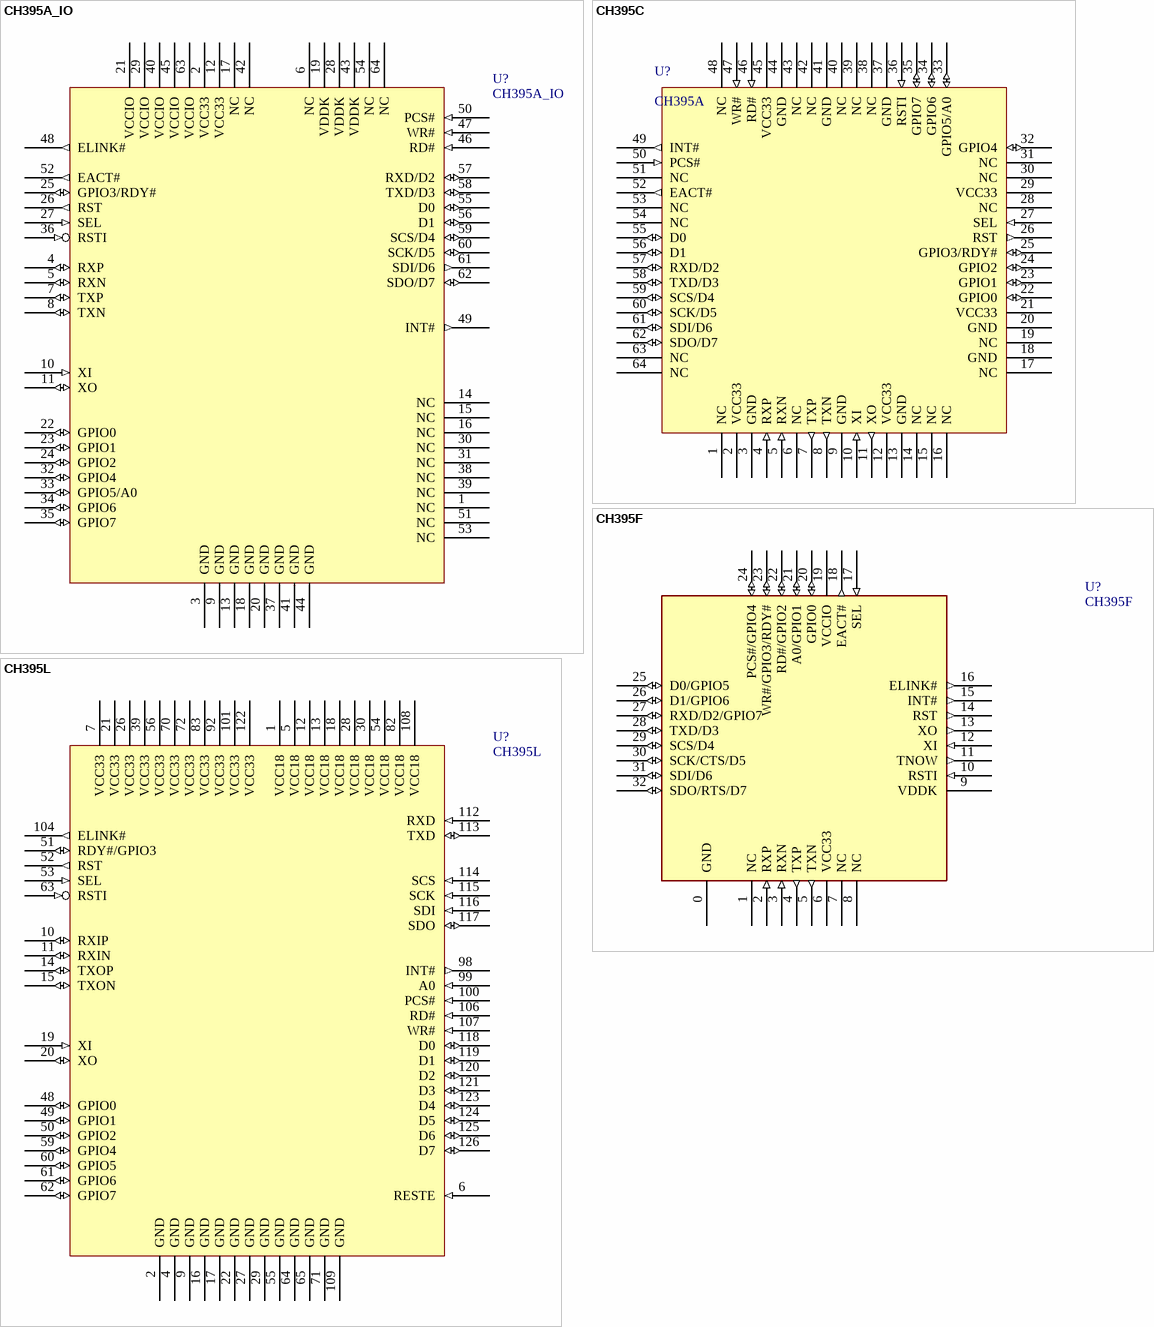
[diagram p40: symbols CH395A_IO to CH395L]

## CH395A_IO
designator U?
TCP/IP embedded 100Mbps ethernet controller for MCU connecting internet
footprint LQFP64M_10X10
pins: 1 NC, 2 VCC33 (power), 3 GND (power), 4 RXP (io), 5 RXN (io), 6 NC, 7 TXP (io), 8 TXN (io), 9 GND (power), 10 XI (in), 11 XO (io), 12 VCC33 (power), 13 GND (power), 14 NC, 15 NC, 16 NC, 17 NC, 18 GND (power), 19 VDDK (power), 20 GND (power), 21 VCCIO (power), 22 GPIO0 (io), 23 GPIO1 (io), 24 GPIO2 (io), 25 GPIO3/RDY# (io), 26 RST (out), 27 SEL (in), 28 VDDK (power), 29 VCCIO (power), 30 NC, 31 NC, 32 GPIO4 (io), 33 GPIO5/A0 (io), 34 GPIO6 (io), 35 GPIO7 (io), 36 RSTI (in), 37 GND (power), 38 NC, 39 NC, 40 VCCIO (power), 41 GND (power), 42 NC, 43 VDDK (power), 44 GND (power), 45 VCCIO (power), 46 RD# (in), 47 WR# (in), 48 ELINK# (out), 49 INT# (out), 50 PCS# (in), 51 NC, 52 EACT# (out), 53 NC, 54 NC, 55 D0 (io), 56 D1 (io), 57 RXD/D2 (io), 58 TXD/D3 (io), 59 SCS/D4 (io), 60 SCK/D5 (io), 61 SDI/D6 (out), 62 SDO/D7 (io), 63 VCCIO (power), 64 NC

## CH395C
designator U?, comment CH395A
TCP/IP embedded 100Mbps ethernet controller for MCU connecting internet
footprint LQFP64M_10x10 (Footprint not found)
pins: 1 NC, 2 VCC33 (power), 3 GND, 4 RXP (in), 5 RXN (in), 6 NC, 7 TXP (out), 8 TXN (out), 9 GND (power), 10 XI (in), 11 XO (out), 12 VCC33 (power), 13 GND (power), 14 NC, 15 NC, 16 NC, 17 NC, 18 GND (power), 19 NC, 20 GND (power), 21 VCC33 (power), 22 GPIO0 (io), 23 GPIO1 (io), 24 GPIO2 (io), 25 GPIO3/RDY# (io), 26 RST (out), 27 SEL (in), 28 NC, 29 VCC33 (power), 30 NC, 31 NC, 32 GPIO4 (io), 33 GPIO5/A0 (io), 34 GPIO6 (io), 35 GPIO7 (io), 36 RSTI (in), 37 GND (power), 38 NC, 39 NC, 40 NC, 41 GND (power), 42 NC, 43 NC, 44 GND (power), 45 VCC33 (power), 46 RD# (in), 47 WR# (in), 48 NC, 49 INT# (out), 50 PCS# (in), 51 NC, 52 EACT# (out), 53 NC, 54 NC, 55 D0 (io), 56 D1 (io), 57 RXD/D2 (io), 58 TXD/D3 (io), 59 SCS/D4 (io), 60 SCK/D5 (io), 61 SDI/D6 (io), 62 SDO/D7 (io), 63 NC, 64 NC

## CH395F
designator U?
TCP/IP embedded 100Mbps ethernet controller for MCU connecting internet
footprint QFN32_4X4 (Footprint not found)
pins: 0 GND (power), 1 NC (power), 2 RXP (in), 3 RXN (in), 4 TXP (out), 5 TXN (out), 6 VCC33 (power), 7 NC, 8 NC, 9 VDDK (power), 10 RSTI (in), 11 TNOW (out), 12 XI (in), 13 XO (out), 14 RST (out), 15 INT# (out), 16 ELINK# (out), 17 SEL (in), 18 EACT# (out), 19 VCCIO (power), 20 GPIO0 (io), 21 A0/GPIO1 (io), 22 RD#/GPIO2 (io), 23 WR#/GPIO3/RDY# (io), 24 PCS#/GPIO4 (io), 25 D0/GPIO5 (io), 26 D1/GPIO6 (io), 27 RXD/D2/GPIO7 (io), 28 TXD/D3 (io), 29 SCS/D4 (io), 30 SCK/CTS/D5 (io), 31 SDI/D6 (io), 32 SDO/RTS/D7 (io)

## CH395L
designator U?
TCP/IP embedded 100Mbps ethernet controller for MCU connecting internet
footprint LQFP128
pins: 1 VCC18 (power), 2 GND (power), 4 GND (power), 5 VCC18 (power), 6 RESTE (in), 7 VCC33 (power), 9 GND (power), 10 RXIP (io), 11 RXIN (io), 12 VCC18 (power), 13 VCC18 (power), 14 TXOP (io), 15 TXON (io), 16 GND (power), 17 GND (power), 18 VCC18 (power), 19 XI (in), 20 XO (io), 21 VCC33 (power), 22 GND (power), 26 VCC33 (power), 27 GND (power), 28 VCC18 (power), 29 GND (power), 30 VCC18 (power), 39 VCC33 (power), 48 GPIO0 (io), 49 GPIO1 (io), 50 GPIO2 (io), 51 RDY#/GPIO3 (io), 52 RST (out), 53 SEL (in), 54 VCC18 (power), 55 GND (power), 56 VCC33 (power), 59 GPIO4 (io), 60 GPIO5 (io), 61 GPIO6 (io), 62 GPIO7 (io), 63 RSTI (in), 64 GND (power), 65 GND (power), 70 VCC33 (power), 71 GND (power), 72 VCC33 (power), 82 VCC18 (power), 83 VCC33 (power), 92 VCC33 (power), 98 INT# (out), 99 A0 (in), 100 PCS# (in), 101 VCC33 (power), 104 ELINK# (out), 106 RD# (in), 107 WR# (in), 108 VCC18 (power), 109 GND (power), 112 RXD (in), 113 TXD (io), 114 SCS (in), 115 SCK (in), 116 SDI (in), 117 SDO (io), 118 D0 (io), 119 D1 (io), 120 D2 (io), 121 D3 (io), 122 VCC33 (power), 123 D4 (io), 124 D5 (io), 125 D6 (io), 126 D7 (io)

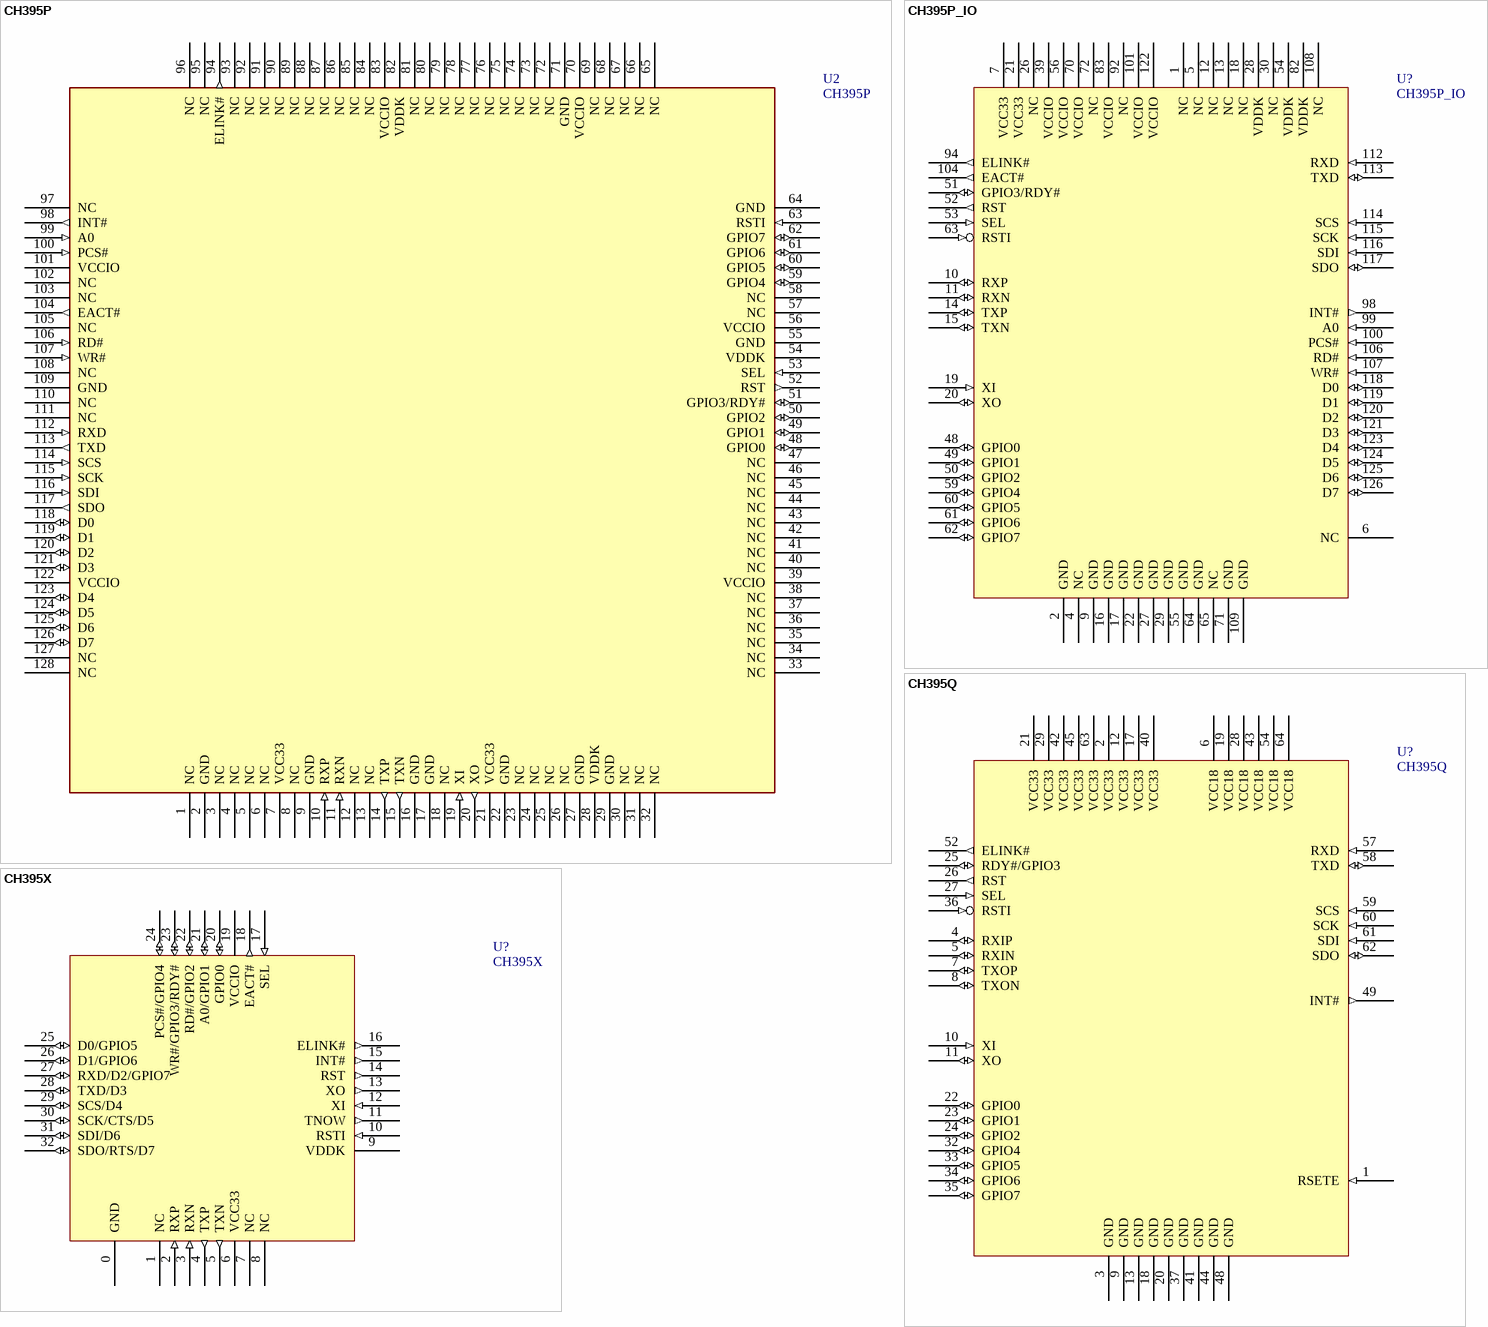
[diagram p41: symbols CH395P to CH395X]

## CH395P
designator U2
TCP/IP embedded 100Mbps ethernet controller for MCU connecting internet
footprint LQFP128 (Footprint not found)
pins: 1 NC, 2 GND (power), 3 NC, 4 NC, 5 NC, 6 NC (power), 7 VCC33 (power), 8 NC, 9 GND (power), 10 RXP (in), 11 RXN (in), 12 NC, 13 NC, 14 TXP (out), 15 TXN (out), 16 GND (power), 17 GND (power), 18 NC, 19 XI (in), 20 XO (out), 21 VCC33 (power), 22 GND (power), 23 NC, 24 NC, 25 NC, 26 NC, 27 GND (power), 28 VDDK (power), 29 GND (power), 30 NC, 31 NC, 32 NC, 33 NC, 34 NC, 35 NC, 36 NC, 37 NC, 38 NC, 39 VCCIO (power), 40 NC, 41 NC, 42 NC, 43 NC, 44 NC, 45 NC, 46 NC, 47 NC, 48 GPIO0 (io), 49 GPIO1 (io), 50 GPIO2 (io), 51 GPIO3/RDY# (io), 52 RST (out), 53 SEL (in), 54 VDDK (power), 55 GND (power), 56 VCCIO (power), 57 NC, 58 NC, 59 GPIO4 (io), 60 GPIO5 (io), 61 GPIO6 (io), 62 GPIO7 (io), 63 RSTI (in), 64 GND (power), 65 NC, 66 NC, 67 NC, 68 NC, 69 NC, 70 VCCIO (power), 71 GND (power), 72 NC, 73 NC, 74 NC, 75 NC, 76 NC, 77 NC, 78 NC, 79 NC, 80 NC, 81 NC, 82 VDDK (power), 83 VCCIO (power), 84 NC, 85 NC, 86 NC, 87 NC, 88 NC, 89 NC, 90 NC, 91 NC, 92 NC, 93 NC, 94 ELINK# (out), 95 NC, 96 NC, 97 NC, 98 INT# (out), 99 A0 (in), 100 PCS# (in), 101 VCCIO (power), 102 NC, 103 NC, 104 EACT# (out), 105 NC, 106 RD# (in), 107 WR# (in), 108 NC, 109 GND (power), 110 NC, 111 NC, 112 RXD (in), 113 TXD (out), 114 SCS (in), 115 SCK (in), 116 SDI (in), 117 SDO (out), 118 D0 (io), 119 D1 (io), 120 D2 (io), 121 D3 (io), 122 VCCIO (power), 123 D4 (io), 124 D5 (io), 125 D6 (io), 126 D7 (io), 127 NC, 128 NC

## CH395P_IO
designator U?
TCP/IP embedded 100Mbps ethernet controller for MCU connecting internet
footprint LQFP128
pins: 1 NC, 2 GND (power), 4 NC, 5 NC, 6 NC (power), 7 VCC33 (power), 9 GND (power), 10 RXP (io), 11 RXN (io), 12 NC, 13 NC, 14 TXP (io), 15 TXN (io), 16 GND (power), 17 GND (power), 18 NC, 19 XI (in), 20 XO (io), 21 VCC33 (power), 22 GND (power), 26 NC, 27 GND (power), 28 VDDK (power), 29 GND (power), 30 NC, 39 VCCIO (power), 48 GPIO0 (io), 49 GPIO1 (io), 50 GPIO2 (io), 51 GPIO3/RDY# (io), 52 RST (out), 53 SEL (in), 54 VDDK (power), 55 GND (power), 56 VCCIO (power), 59 GPIO4 (io), 60 GPIO5 (io), 61 GPIO6 (io), 62 GPIO7 (io), 63 RSTI (in), 64 GND (power), 65 NC, 70 VCCIO (power), 71 GND (power), 72 NC, 82 VDDK (power), 83 VCCIO (power), 92 NC, 94 ELINK# (out), 98 INT# (out), 99 A0 (in), 100 PCS# (in), 101 VCCIO (power), 104 EACT# (out), 106 RD# (in), 107 WR# (in), 108 NC, 109 GND (power), 112 RXD (in), 113 TXD (io), 114 SCS (in), 115 SCK (in), 116 SDI (in), 117 SDO (io), 118 D0 (io), 119 D1 (io), 120 D2 (io), 121 D3 (io), 122 VCCIO (power), 123 D4 (io), 124 D5 (io), 125 D6 (io), 126 D7 (io)

## CH395Q
designator U?
TCP/IP embedded 100Mbps ethernet controller for MCU connecting internet
footprint LQFP64M_10X10
pins: 1 RSETE (in), 2 VCC33 (power), 3 GND (power), 4 RXIP (io), 5 RXIN (io), 6 VCC18 (power), 7 TXOP (io), 8 TXON (io), 9 GND (power), 10 XI (in), 11 XO (io), 12 VCC33 (power), 13 GND (power), 17 VCC33 (power), 18 GND (power), 19 VCC18 (power), 20 GND (power), 21 VCC33 (power), 22 GPIO0 (io), 23 GPIO1 (io), 24 GPIO2 (io), 25 RDY#/GPIO3 (io), 26 RST (out), 27 SEL (in), 28 VCC18 (power), 29 VCC33 (power), 32 GPIO4 (io), 33 GPIO5 (io), 34 GPIO6 (io), 35 GPIO7 (io), 36 RSTI (in), 37 GND (power), 40 VCC33 (power), 41 GND (power), 42 VCC33 (power), 43 VCC18 (power), 44 GND (power), 45 VCC33 (power), 48 GND (power), 49 INT# (out), 52 ELINK# (out), 54 VCC18 (power), 57 RXD (in), 58 TXD (io), 59 SCS (in), 60 SCK (in), 61 SDI (in), 62 SDO (io), 63 VCC33 (power), 64 VCC18 (power)

## CH395X
designator U?
TCP/IP embedded 100Mbps ethernet controller for MCU connecting internet
footprint QFN32_4X4 (Footprint not found)
pins: 0 GND (power), 1 NC (power), 2 RXP (in), 3 RXN (in), 4 TXP (out), 5 TXN (out), 6 VCC33 (power), 7 NC, 8 NC, 9 VDDK (power), 10 RSTI (in), 11 TNOW (out), 12 XI (in), 13 XO (out), 14 RST (out), 15 INT# (out), 16 ELINK# (out), 17 SEL (in), 18 EACT# (out), 19 VCCIO (power), 20 GPIO0 (io), 21 A0/GPIO1 (io), 22 RD#/GPIO2 (io), 23 WR#/GPIO3/RDY# (io), 24 PCS#/GPIO4 (io), 25 D0/GPIO5 (io), 26 D1/GPIO6 (io), 27 RXD/D2/GPIO7 (io), 28 TXD/D3 (io), 29 SCS/D4 (io), 30 SCK/CTS/D5 (io), 31 SDI/D6 (io), 32 SDO/RTS/D7 (io)

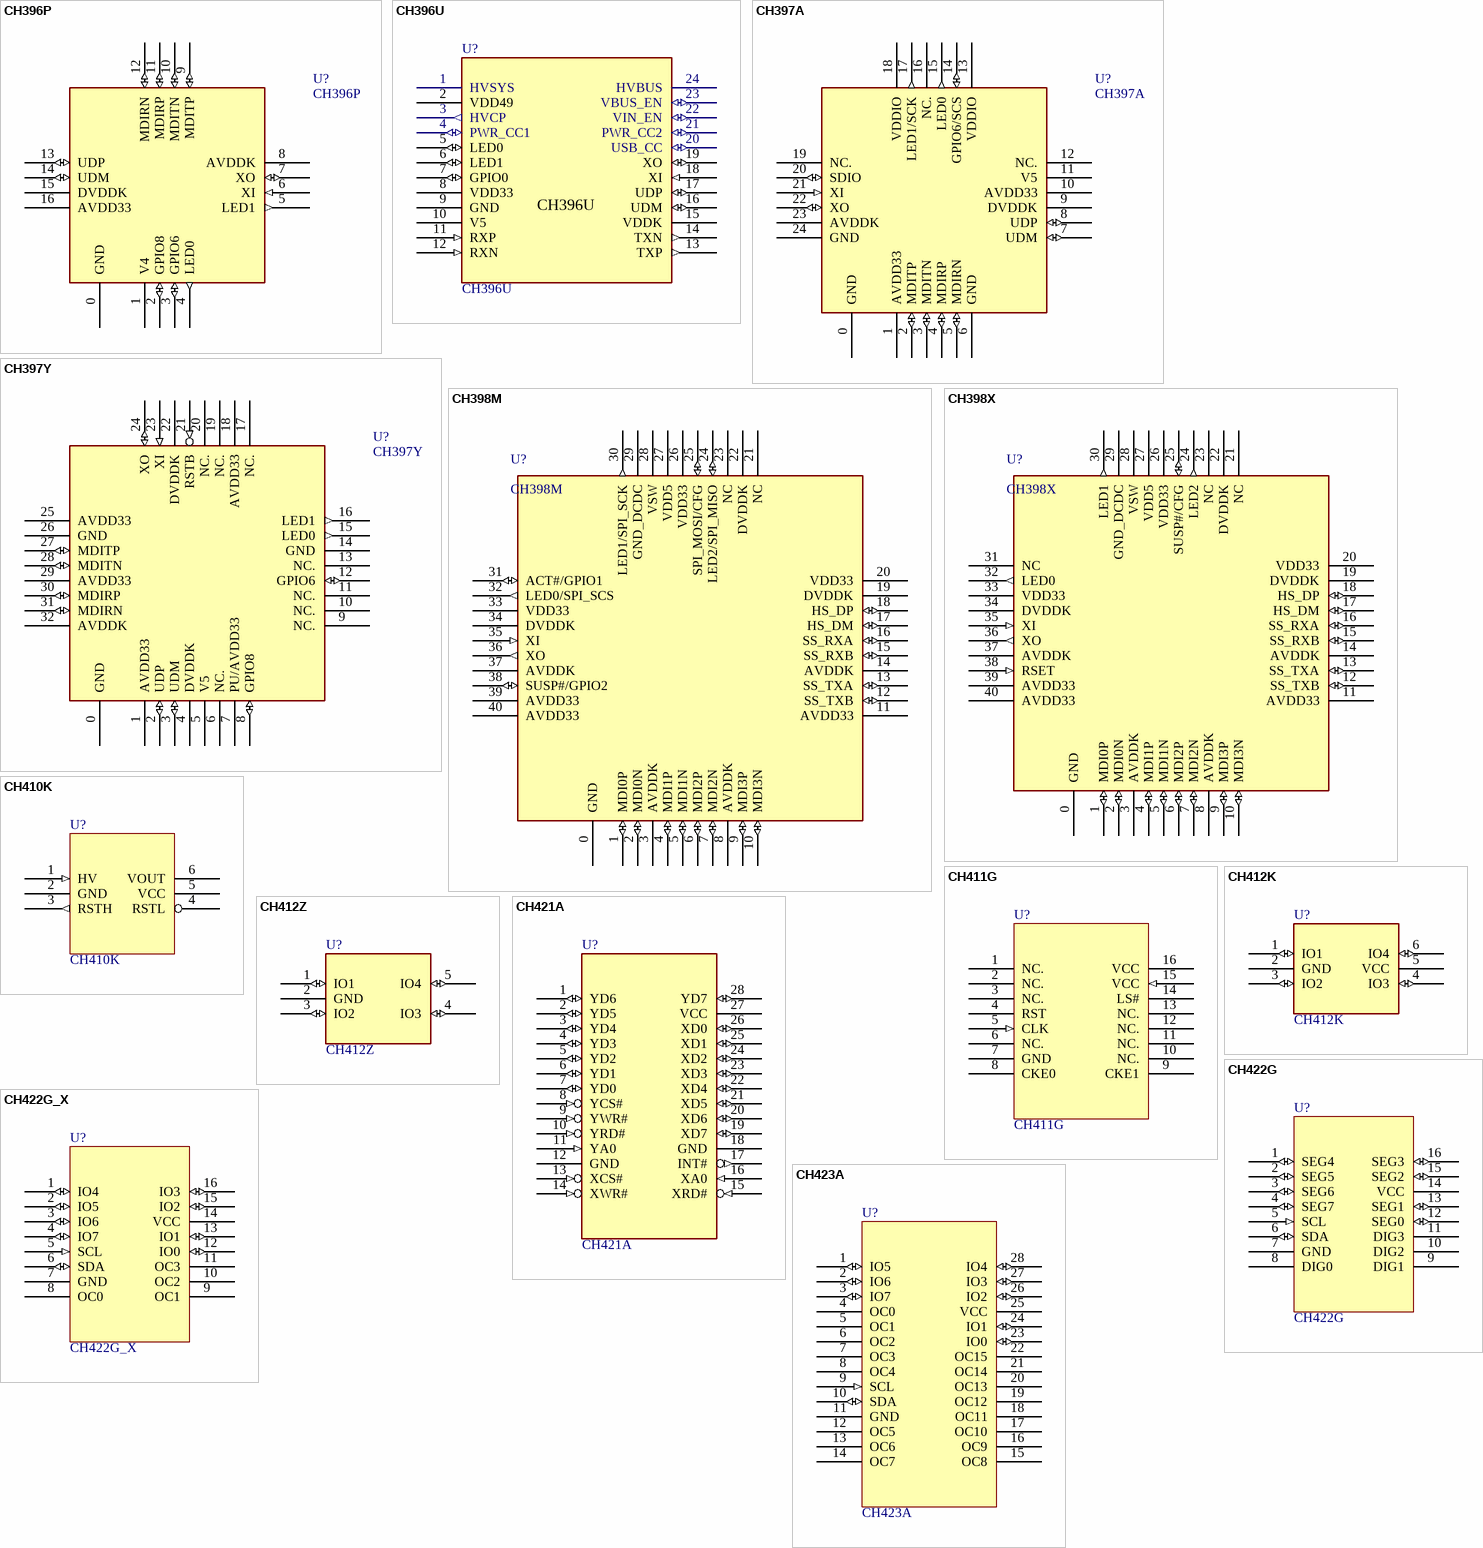
[diagram p42: symbols CH396P to CH423A]

## CH396P
designator U?
USB2.0 to 10/100M Fast Ethernet with Driver Flash
footprint QFN16_3X3
pins: 0 GND (power), 1 V4 (power), 2 GPIO8 (io), 3 GPIO6 (io), 4 LED0 (out), 5 LED1 (out), 6 XI (in), 7 XO (io), 8 AVDDK (power), 9 MDITP (io), 10 MDITN (io), 11 MDIRP (io), 12 MDIRN (io), 13 UDP (io), 14 UDM (io), 15 DVDDK (power), 16 AVDD33 (power)

## CH396U
designator U?
RISC-V MCU with USB OTG 2.0 & 100Mbps Ethernet & Type-C/PD 28V
footprint QSOP24
pins: 1 HVSYS (power), 2 VDD49 (power), 3 HVCP (out), 4 PWR_CC1 (io), 5 LED0 (io), 6 LED1 (io), 7 GPIO0 (io), 8 VDD33 (power), 9 GND (power), 10 V5 (power), 11 RXP (in), 12 RXN (in), 13 TXP (out), 14 TXN (out), 15 VDDK (power), 16 UDM (io), 17 UDP (io), 18 XI (in), 19 XO (io), 20 USB_CC (io), 21 PWR_CC2 (io), 22 VIN_EN (io), 23 VBUS_EN (io), 24 HVBUS (power)

## CH397A
designator U?
USB2.0 to 10/100M Fast Ethernet with Driver Flash
footprint QFN24_4X4
pins: 0 GND (power), 1 AVDD33 (power), 2 MDITP (io), 3 MDITN (io), 4 MDIRP (io), 5 MDIRN (io), 6 GND (power), 7 UDM (io), 8 UDP (io), 9 DVDDK (power), 10 AVDD33 (power), 11 V5 (power), 12 NC., 13 VDDIO (power), 14 GPIO6/SCS (io), 15 LED0 (out), 16 NC., 17 LED1/SCK (out), 18 VDDIO (power), 19 NC., 20 SDIO (io), 21 XI (in), 22 XO (io), 23 AVDDK (power), 24 GND (power)

## CH397Y
designator U?
USB2.0 to 10/100M Fast Ethernet with Driver Flash
footprint QFN32_4X4
pins: 0 GND (power), 1 AVDD33 (power), 2 UDP (io), 3 UDM (io), 4 DVDDK (power), 5 V5 (power), 6 NC., 7 PU/AVDD33 (power), 8 GPIO8 (io), 9 NC., 10 NC., 11 NC., 12 GPIO6 (io), 13 NC., 14 GND (power), 15 LED0 (out), 16 LED1 (out), 17 NC., 18 AVDD33 (power), 19 NC., 20 NC., 21 RSTB (in), 22 DVDDK (power), 23 XI (in), 24 XO (io), 25 AVDD33 (power), 26 GND (power), 27 MDITP (io), 28 MDITN (io), 29 AVDD33 (power), 30 MDIRP (io), 31 MDIRN (io), 32 AVDDK (power)

## CH398M
designator U?
USB 3.0 Gigabit Ethernet Controller
footprint QFN48_5X5
pins: 0 GND (power), 1 MDI0P (io), 2 MDI0N (io), 3 AVDDK (power), 4 MDI1P (io), 5 MDI1N (io), 6 MDI2P (io), 7 MDI2N (io), 8 AVDDK (power), 9 MDI3P (io), 10 MDI3N (io), 11 AVDD33 (power), 12 SS_TXB (io), 13 SS_TXA (io), 14 AVDDK (power), 15 SS_RXB (io), 16 SS_RXA (io), 17 HS_DM (io), 18 HS_DP (io), 19 DVDDK (power), 20 VDD33 (power), 21 NC, 22 DVDDK (power), 23 NC, 24 LED2/SPI_MISO (io), 25 SPI_MOSI/CFG (io), 26 VDD33 (power), 27 VDD5 (power), 28 VSW (power), 29 GND_DCDC (power), 30 LED1/SPI_SCK (out), 31 ACT#/GPIO1 (io), 32 LED0/SPI_SCS (out), 33 VDD33 (power), 34 DVDDK (power), 35 XI (in), 36 XO (out), 37 AVDDK (power), 38 SUSP#/GPIO2 (io), 39 AVDD33 (power), 40 AVDD33 (power)

## CH398X
designator U?
USB 3.0 Gigabit Ethernet Controller
footprint QFN48_5X5
pins: 0 GND (power), 1 MDI0P (io), 2 MDI0N (io), 3 AVDDK (power), 4 MDI1P (io), 5 MDI1N (io), 6 MDI2P (io), 7 MDI2N (io), 8 AVDDK (power), 9 MDI3P (io), 10 MDI3N (io), 11 AVDD33 (power), 12 SS_TXB (io), 13 SS_TXA (io), 14 AVDDK (power), 15 SS_RXB (io), 16 SS_RXA (io), 17 HS_DM (io), 18 HS_DP (io), 19 DVDDK (power), 20 VDD33 (power), 21 NC, 22 DVDDK (power), 23 NC, 24 LED2 (out), 25 SUSP#/CFG (io), 26 VDD33 (power), 27 VDD5 (power), 28 VSW (power), 29 GND_DCDC (power), 30 LED1 (out), 31 NC, 32 LED0 (out), 33 VDD33 (power), 34 DVDDK (power), 35 XI (in), 36 XO (out), 37 AVDDK (power), 38 RSET (in), 39 AVDD33 (power), 40 AVDD33 (power)

## CH410K
designator U?
PowerOnReset & LowVoltageReset, voltage monitor
footprint SOT-363
pins: 1 HV (in), 2 GND (power), 3 RSTH (out), 4 RSTL (oc), 5 VCC (power), 6 VOUT (power)

## CH411G
designator U?
Work state monitor
footprint SOP16
pins: 1 NC., 2 NC., 3 NC., 4 RST (oc), 5 CLK (in), 6 NC., 7 GND (power), 8 CKE0 (oc), 9 CKE1 (oc), 10 NC., 11 NC., 12 NC., 13 NC., 14 LS# (oc), 15 VCC (in), 16 VCC (power)

## CH412K
designator U?
Qaud ESD protect, high speed
footprint SOT-363
pins: 1 IO1 (io), 2 GND (power), 3 IO2 (io), 4 IO3 (io), 5 VCC (power), 6 IO4 (io)

## CH412Z
designator U?
Quad ESD protect, low speed
footprint SOT-353
pins: 1 IO1 (io), 2 GND (power), 3 IO2 (io), 4 IO3 (io), 5 IO4 (io)

## CH421A
designator U?
Dual port buffer, 66 byte
footprint SOP28
pins: 1 YD6 (io), 2 YD5 (io), 3 YD4 (io), 4 YD3 (io), 5 YD2 (io), 6 YD1 (io), 7 YD0 (io), 8 YCS# (in), 9 YWR# (in), 10 YRD# (in), 11 YA0 (in), 12 GND (power), 13 XCS# (in), 14 XWR# (in), 15 XRD# (in), 16 XA0 (in), 17 INT# (out), 18 GND (power), 19 XD7 (io), 20 XD6 (io), 21 XD5 (io), 22 XD4 (io), 23 XD3 (io), 24 XD2 (io), 25 XD1 (io), 26 XD0 (io), 27 VCC (power), 28 YD7 (io)

## CH422G
designator U?
I2C/IIC I/O expander, GPIO, 8-Seg * 4 / 32 LEDs Drive
footprint SOP16
pins: 1 SEG4 (io), 2 SEG5 (io), 3 SEG6 (io), 4 SEG7 (io), 5 SCL (in), 6 SDA (io), 7 GND (power), 8 DIG0 (oc), 9 DIG1 (oc), 10 DIG2 (oc), 11 DIG3 (oc), 12 SEG0 (io), 13 SEG1 (io), 14 VCC (power), 15 SEG2 (io), 16 SEG3 (io)

## CH422G_X
designator U?
I2C/IIC I/O expander, 4 GPO + 8 GPIO/OC
footprint SOP16
pins: 1 IO4 (io), 2 IO5 (io), 3 IO6 (io), 4 IO7 (io), 5 SCL (in), 6 SDA (io), 7 GND (power), 8 OC0 (oc), 9 OC1 (oc), 10 OC2 (oc), 11 OC3 (oc), 12 IO0 (io), 13 IO1 (io), 14 VCC (power), 15 IO2 (io), 16 IO3 (io)

## CH423A
designator U?
I2C/IIC I/O expander, 16 GPO + 8 GPIO
footprint SOP28
footprint DIP28S
pins: 1 IO5 (io), 2 IO6 (io), 3 IO7 (io), 4 OC0 (oc), 5 OC1 (oc), 6 OC2 (oc), 7 OC3 (oc), 8 OC4 (oc), 9 SCL (in), 10 SDA (io), 11 GND (power), 12 OC5 (oc), 13 OC6 (oc), 14 OC7 (oc), 15 OC8 (oc), 16 OC9 (oc), 17 OC10 (oc), 18 OC11 (oc), 19 OC12 (oc), 20 OC13 (oc), 21 OC14 (oc), 22 OC15 (oc), 23 IO0 (io), 24 IO1 (io), 25 VCC (power), 26 IO2 (io), 27 IO3 (io), 28 IO4 (io)

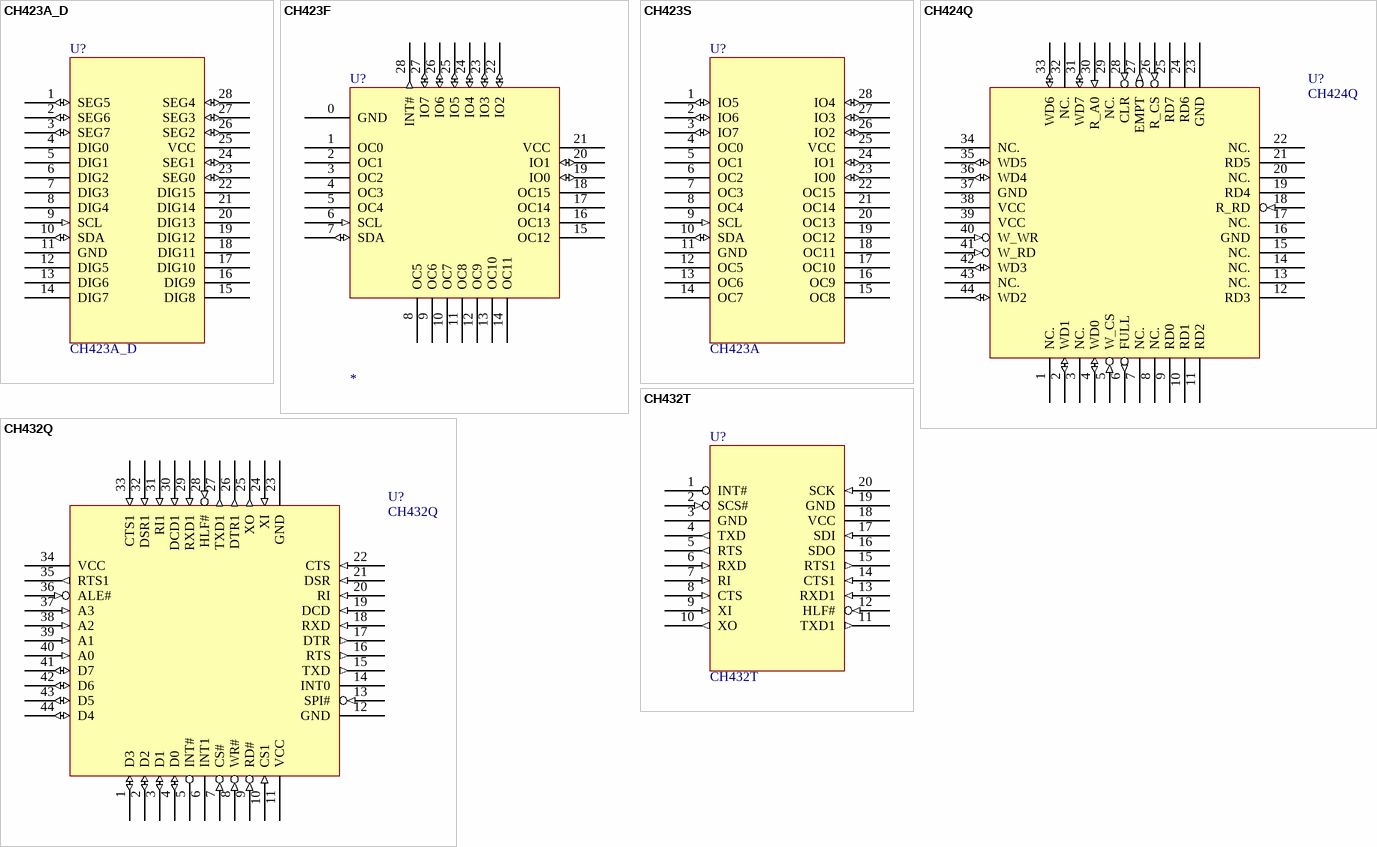
[diagram p43: symbols CH423A_D to CH432T]

## CH423A_D
designator U?
I2C/IIC I/O expander, GPIO, 8-Seg * 16 / 128 LEDs Drive
footprint SOP28
footprint DIP28S
pins: 1 SEG5 (io), 2 SEG6 (io), 3 SEG7 (io), 4 DIG0 (oc), 5 DIG1 (oc), 6 DIG2 (oc), 7 DIG3 (oc), 8 DIG4 (oc), 9 SCL (in), 10 SDA (io), 11 GND (power), 12 DIG5 (oc), 13 DIG6 (oc), 14 DIG7 (oc), 15 DIG8 (oc), 16 DIG9 (oc), 17 DIG10 (oc), 18 DIG11 (oc), 19 DIG12 (oc), 20 DIG13 (oc), 21 DIG14 (oc), 22 DIG15 (oc), 23 SEG0 (io), 24 SEG1 (io), 25 VCC (power), 26 SEG2 (io), 27 SEG3 (io), 28 SEG4 (io)

## CH423F
designator U?
I2C/IIC I/O expander, 16 GPO + 8 GPIO
footprint QFN28_4X4 (Footprint not found)
pins: 0 GND (power), 1 OC0 (oc), 2 OC1 (oc), 3 OC2 (oc), 4 OC3 (oc), 5 OC4 (oc), 6 SCL (in), 7 SDA (io), 8 OC5 (oc), 9 OC6 (oc), 10 OC7 (oc), 11 OC8 (oc), 12 OC9 (oc), 13 OC10 (oc), 14 OC11 (oc), 15 OC12 (oc), 16 OC13 (oc), 17 OC14 (oc), 18 OC15 (oc), 19 IO0 (io), 20 IO1 (io), 21 VCC (power), 22 IO2 (io), 23 IO3 (io), 24 IO4 (io), 25 IO5 (io), 26 IO6 (io), 27 IO7 (io), 28 INT# (out)

## CH423S
designator U?, comment CH423A
I2C/IIC I/O expander, 16 GPO + 8 GPIO
footprint SOP28
pins: 1 IO5 (io), 2 IO6 (io), 3 IO7 (io), 4 OC0 (oc), 5 OC1 (oc), 6 OC2 (oc), 7 OC3 (oc), 8 OC4 (oc), 9 SCL (in), 10 SDA (io), 11 GND (power), 12 OC5 (oc), 13 OC6 (oc), 14 OC7 (oc), 15 OC8 (oc), 16 OC9 (oc), 17 OC10 (oc), 18 OC11 (oc), 19 OC12 (oc), 20 OC13 (oc), 21 OC14 (oc), 22 OC15 (oc), 23 IO0 (io), 24 IO1 (io), 25 VCC (power), 26 IO2 (io), 27 IO3 (io), 28 IO4 (io)

## CH424Q
designator U?
FIFO, 4K byte * 8 bit
footprint LQFP44
pins: 1 NC., 2 WD1 (io), 3 NC., 4 WD0 (io), 5 W_CS (in), 6 FULL (out), 7 NC., 8 NC., 9 RD0 (hiz), 10 RD1 (hiz), 11 RD2 (hiz), 12 RD3 (hiz), 13 NC., 14 NC., 15 NC., 16 GND (power), 17 NC., 18 R_RD (in), 19 RD4 (hiz), 20 NC., 21 RD5 (hiz), 22 NC., 23 GND (power), 24 RD6 (hiz), 25 RD7 (hiz), 26 R_CS (in), 27 EMPT (out), 28 CLR (in), 29 NC., 30 R_A0 (in), 31 WD7 (io), 32 NC., 33 WD6 (io), 34 NC., 35 WD5 (io), 36 WD4 (io), 37 GND (power), 38 VCC (power), 39 VCC (power), 40 W_WR (in), 41 W_RD (in), 42 WD3 (io), 43 NC., 44 WD2 (io)

## CH432Q
designator U?
Dual 16C550 UART with IrDA, parallel / SPI
footprint LQFP44
pins: 1 D3 (io), 2 D2 (io), 3 D1 (io), 4 D0 (io), 5 INT# (oc), 6 INT1 (hiz), 7 CS# (in), 8 WR# (in), 9 RD# (in), 10 CS1 (in), 11 VCC (power), 12 GND (power), 13 SPI# (in), 14 INT0 (hiz), 15 TXD (out), 16 RTS (out), 17 DTR (out), 18 RXD (in), 19 DCD (in), 20 RI (in), 21 DSR (in), 22 CTS (in), 23 GND (power), 24 XI (in), 25 XO (out), 26 DTR1 (out), 27 TXD1 (out), 28 HLF# (in), 29 RXD1 (in), 30 DCD1 (in), 31 RI1 (in), 32 DSR1 (in), 33 CTS1 (in), 34 VCC (power), 35 RTS1 (out), 36 ALE# (in), 37 A3 (in), 38 A2 (in), 39 A1 (in), 40 A0 (in), 41 D7 (io), 42 D6 (io), 43 D5 (io), 44 D4 (io)

## CH432T
designator U?
SPI Dual 16C550 UART with IrDA
footprint SSOP20
pins: 1 INT# (oc), 2 SCS# (in), 3 GND (power), 4 TXD (out), 5 RTS (out), 6 RXD (in), 7 RI (in), 8 CTS (in), 9 XI (in), 10 XO (out), 11 TXD1 (out), 12 HLF# (in), 13 RXD1 (in), 14 CTS1 (in), 15 RTS1 (out), 16 SDO (hiz), 17 SDI (in), 18 VCC (power), 19 GND (power), 20 SCK (in)

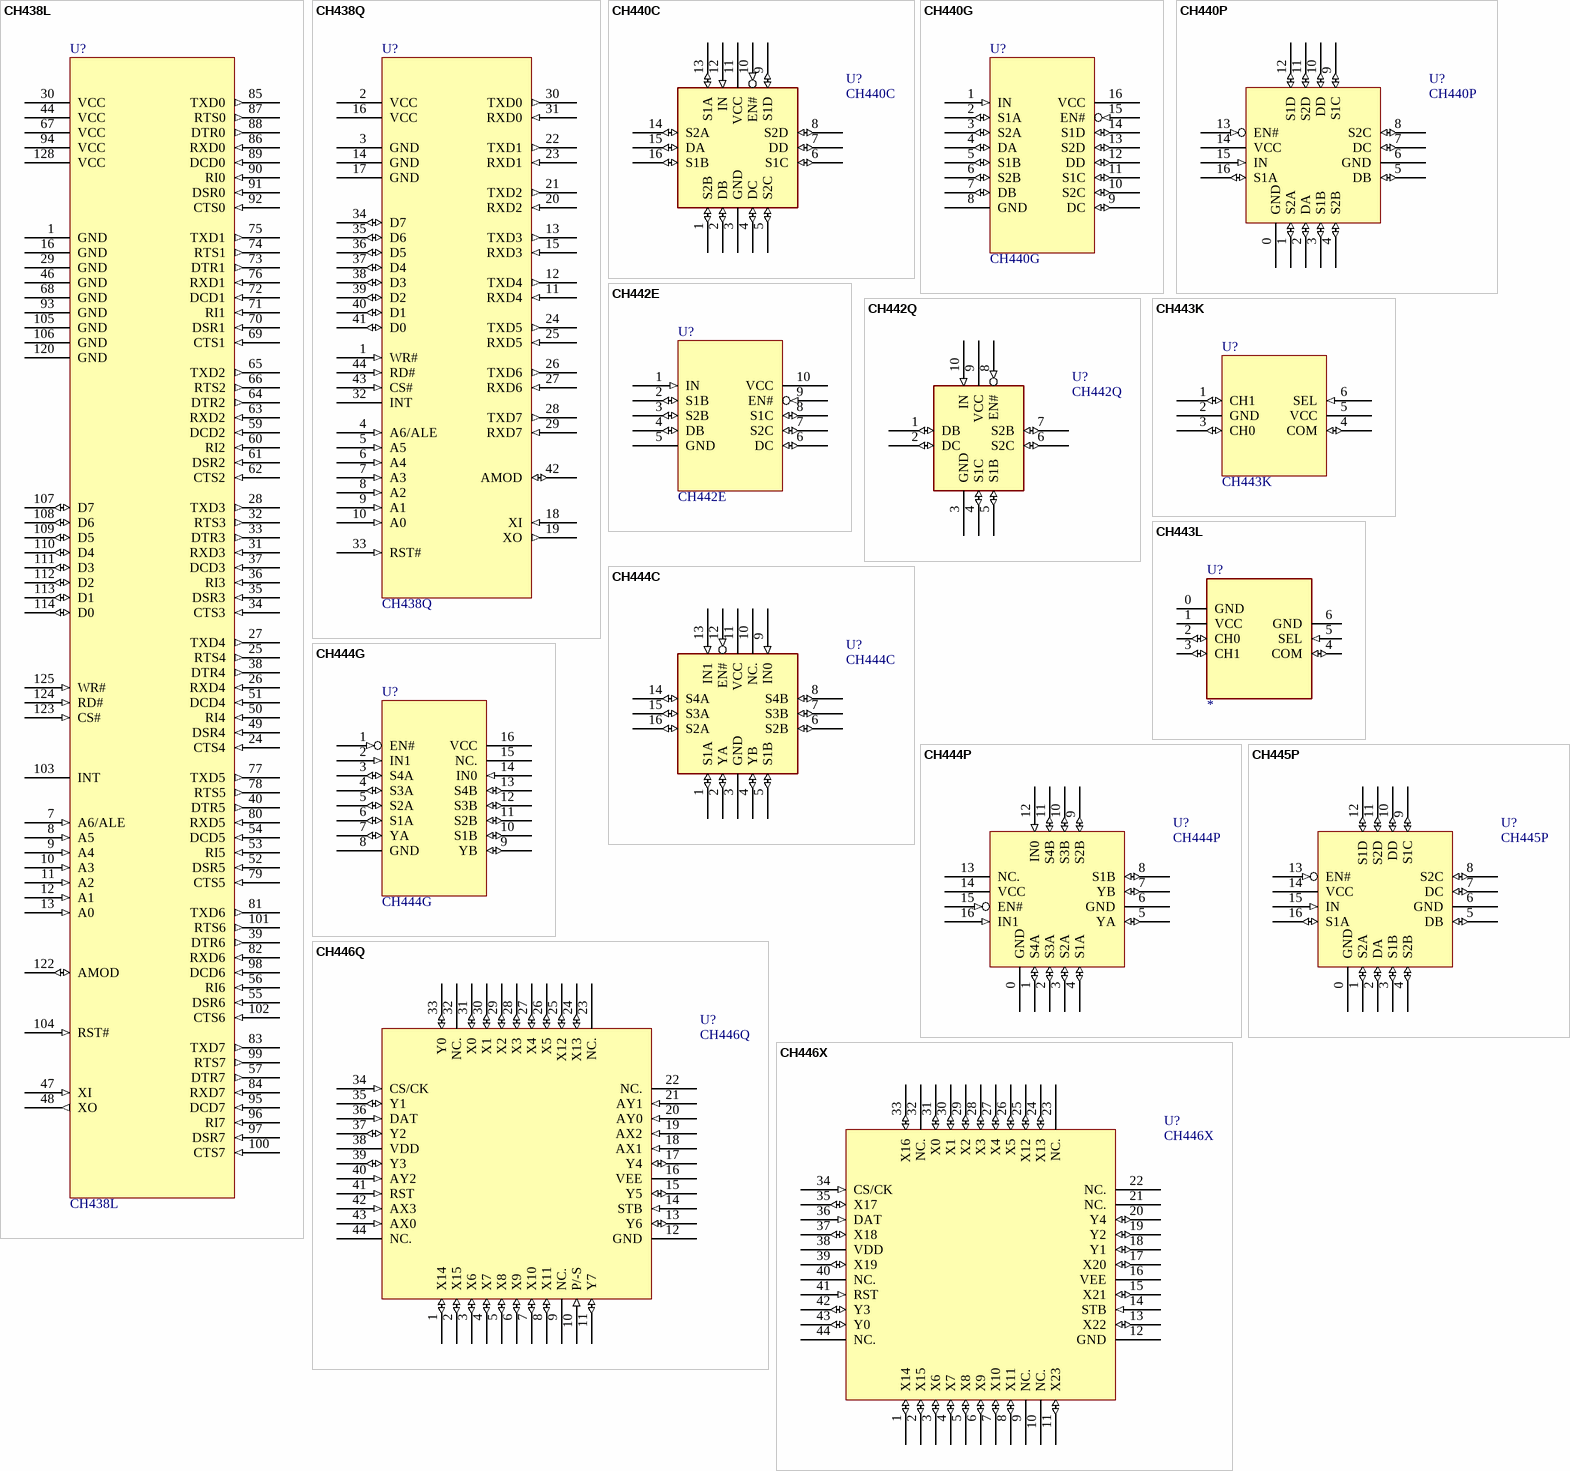
[diagram p44: symbols CH438L to CH446X]

## CH438L
designator U?
Parallel to 8S: Oct 16C550 UART with 128 byte FIFO, TTL Serial*8
footprint LQFP128
pins: 1 GND (power), 7 A6/ALE (in), 8 A5 (in), 9 A4 (in), 10 A3 (in), 11 A2 (in), 12 A1 (in), 13 A0 (in), 16 GND (power), 24 CTS4 (in), 25 RTS4 (out), 26 RXD4 (in), 27 TXD4 (out), 28 TXD3 (out), 29 GND (power), 30 VCC (power), 31 RXD3 (in), 32 RTS3 (out), 33 DTR3 (out), 34 CTS3 (in), 35 DSR3 (in), 36 RI3 (in), 37 DCD3 (in), 38 DTR4 (out), 39 DTR6 (out), 40 DTR5 (out), 44 VCC (power), 46 GND (power), 47 XI (in), 48 XO (out), 49 DSR4 (in), 50 RI4 (in), 51 DCD4 (in), 52 DSR5 (in), 53 RI5 (in), 54 DCD5 (in), 55 DSR6 (in), 56 RI6 (in), 57 DTR7 (out), 59 DCD2 (in), 60 RI2 (in), 61 DSR2 (in), 62 CTS2 (in), 63 RXD2 (in), 64 DTR2 (out), 65 TXD2 (out), 66 RTS2 (out), 67 VCC (power), 68 GND (power), 69 CTS1 (in), 70 DSR1 (in), 71 RI1 (in), 72 DCD1 (in), 73 DTR1 (out), 74 RTS1 (out), 75 TXD1 (out), 76 RXD1 (in), 77 TXD5 (out), 78 RTS5 (out), 79 CTS5 (in), 80 RXD5 (in), 81 TXD6 (out), 82 RXD6 (in), 83 TXD7 (out), 84 RXD7 (in), 85 TXD0 (out), 86 RXD0 (in), 87 RTS0 (out), 88 DTR0 (out), 89 DCD0 (in), 90 RI0 (in), 91 DSR0 (in), 92 CTS0 (in), 93 GND (power), 94 VCC (power), 95 DCD7 (in), 96 RI7 (in), 97 DSR7 (in), 98 DCD6 (in), 99 RTS7 (out), 100 CTS7 (in), 101 RTS6 (out), 102 CTS6 (in), 103 INT (oc), 104 RST# (in), 105 GND (power), 106 GND (power), 107 D7 (io), 108 D6 (io), 109 D5 (io), 110 D4 (io), 111 D3 (io), 112 D2 (io), 113 D1 (io), 114 D0 (io), 120 GND (power), 122 AMOD (io), 123 CS# (in), 124 RD# (in), 125 WR# (in), 128 VCC (power)

## CH438Q
designator U?
Parallel to 8S: Oct 16C550 UART with 128 byte FIFO, TTL Serial*8
footprint LQFP44
pins: 1 WR# (in), 2 VCC (power), 3 GND (power), 4 A6/ALE (in), 5 A5 (in), 6 A4 (in), 7 A3 (in), 8 A2 (in), 9 A1 (in), 10 A0 (in), 11 RXD4 (in), 12 TXD4 (out), 13 TXD3 (out), 14 GND (power), 15 RXD3 (in), 16 VCC (power), 17 GND (power), 18 XI (in), 19 XO (out), 20 RXD2 (in), 21 TXD2 (out), 22 TXD1 (out), 23 RXD1 (in), 24 TXD5 (out), 25 RXD5 (in), 26 TXD6 (out), 27 RXD6 (in), 28 TXD7 (out), 29 RXD7 (in), 30 TXD0 (out), 31 RXD0 (in), 32 INT (oc), 33 RST# (in), 34 D7 (io), 35 D6 (io), 36 D5 (io), 37 D4 (io), 38 D3 (io), 39 D2 (io), 40 D1 (io), 41 D0 (io), 42 AMOD (io), 43 CS# (in), 44 RD# (in)

## CH440C
designator U?
QPDT Low resistance mux 2:1 Analog switches with enable for 5V
footprint QFN16C_2X2
pins: 1 S2B (io), 2 DB (io), 3 GND (power), 4 DC (io), 5 S2C (io), 6 S1C (io), 7 DD (io), 8 S2D (io), 9 S1D (io), 10 EN# (in), 11 VCC (power), 12 IN (in), 13 S1A (io), 14 S2A (io), 15 DA (io), 16 S1B (io)

## CH440G
designator U?
QPDT Low resistance mux 2:1 Analog switches with enable for 5V
footprint SOP16
footprint TSSOP16
pins: 1 IN (in), 2 S1A (io), 3 S2A (io), 4 DA (io), 5 S1B (io), 6 S2B (io), 7 DB (io), 8 GND (power), 9 DC (io), 10 S2C (io), 11 S1C (io), 12 DD (io), 13 S2D (io), 14 S1D (io), 15 EN# (in), 16 VCC (power)

## CH440P
designator U?
QPDT Low resistance mux 2:1 Analog switches with enable for 5V
footprint QFN16_3X3
pins: 0 GND (power), 1 S2A (io), 2 DA (io), 3 S1B (io), 4 S2B (io), 5 DB (io), 6 GND (power), 7 DC (io), 8 S2C (io), 9 S1C (io), 10 DD (io), 11 S2D (io), 12 S1D (io), 13 EN# (in), 14 VCC (power), 15 IN (in), 16 S1A (io)

## CH442E
designator U?
DPDT Low resistance mux 2:1 Analog switches with enable for 5V
footprint MSOP10
pins: 1 IN (in), 2 S1B (io), 3 S2B (io), 4 DB (io), 5 GND (power), 6 DC (io), 7 S2C (io), 8 S1C (io), 9 EN# (in), 10 VCC (power)

## CH442Q
designator U?
DPDT Low resistance mux 2:1 Analog switches with enable for 5V
footprint QFN10_14X18 (Footprint not found)
pins: 1 DB (io), 2 DC (io), 3 GND (power), 4 S1C (io), 5 S1B (io), 6 S2C (io), 7 S2B (io), 8 EN# (in), 9 VCC (power), 10 IN (in)

## CH443K
designator U?
SPDT Low resistance mux 2:1 Analog switches for 5V
footprint SOT-363
pins: 1 CH1 (io), 2 GND (power), 3 CH0 (io), 4 COM (io), 5 VCC (power), 6 SEL (in)

## CH443L
designator U?
SPDT Low resistance mux 2:1 Analog switches for 5V
footprint DFN6_12X12 (Footprint not found)
pins: 0 GND (power), 1 VCC (power), 2 CH0 (io), 3 CH1 (io), 4 COM (io), 5 SEL (in), 6 GND (power)

## CH444C
designator U?
DPQT Low resistance mux 4:1 Analog switches with enable for 5V
footprint QFN16C_2X2
pins: 1 S1A (io), 2 YA (io), 3 GND (power), 4 YB (io), 5 S1B (io), 6 S2B (io), 7 S3B (io), 8 S4B (io), 9 IN0 (in), 10 NC., 11 VCC (power), 12 EN# (in), 13 IN1 (in), 14 S4A (io), 15 S3A (io), 16 S2A (io)

## CH444G
designator U?
DPQT Low resistance mux 4:1 Analog switches with enable for 5V
footprint SOP16
footprint TSSOP16
pins: 1 EN# (in), 2 IN1 (in), 3 S4A (io), 4 S3A (io), 5 S2A (io), 6 S1A (io), 7 YA (io), 8 GND (power), 9 YB (io), 10 S1B (io), 11 S2B (io), 12 S3B (io), 13 S4B (io), 14 IN0 (in), 15 NC., 16 VCC (power)

## CH444P
designator U?
DPQT Low resistance mux 4:1 Analog switches with enable for 5V
footprint QFN16_3X3
pins: 0 GND (power), 1 S4A (io), 2 S3A (io), 3 S2A (io), 4 S1A (io), 5 YA (io), 6 GND (power), 7 YB (io), 8 S1B (io), 9 S2B (io), 10 S3B (io), 11 S4B (io), 12 IN0 (in), 13 NC., 14 VCC (power), 15 EN# (in), 16 IN1 (in)

## CH445P
designator U?
QPDT Low resistance mux 2:1 Analog switches with enable for 3.3V
footprint QFN16_3X3
pins: 0 GND (power), 1 S2A (io), 2 DA (io), 3 S1B (io), 4 S2B (io), 5 DB (io), 6 GND (power), 7 DC (io), 8 S2C (io), 9 S1C (io), 10 DD (io), 11 S2D (io), 12 S1D (io), 13 EN# (in), 14 VCC (power), 15 IN (in), 16 S1A (io)

## CH446Q
designator U?
8 x 16 Analog switch array, include 128 switches for 12V
footprint LQFP44
pins: 1 X14 (io), 2 X15 (io), 3 X6 (io), 4 X7 (io), 5 X8 (io), 6 X9 (io), 7 X10 (io), 8 X11 (io), 9 NC., 10 P/-S (in), 11 Y7 (io), 12 GND (power), 13 Y6 (io), 14 STB (in), 15 Y5 (io), 16 VEE (power), 17 Y4 (io), 18 AX1 (in), 19 AX2 (in), 20 AY0 (in), 21 AY1 (in), 22 NC., 23 NC., 24 X13 (io), 25 X12 (io), 26 X5 (io), 27 X4 (io), 28 X3 (io), 29 X2 (io), 30 X1 (io), 31 X0 (io), 32 NC., 33 Y0 (io), 34 CS/CK (in), 35 Y1 (io), 36 DAT (in), 37 Y2 (io), 38 VDD (power), 39 Y3 (io), 40 AY2 (in), 41 RST (in), 42 AX3 (in), 43 AX0 (in), 44 NC.

## CH446X
designator U?
5 x 24 Analog switch array, include 120 switches for 12V
footprint LQFP44
pins: 1 X14 (io), 2 X15 (io), 3 X6 (io), 4 X7 (io), 5 X8 (io), 6 X9 (io), 7 X10 (io), 8 X11 (io), 9 NC., 10 NC., 11 X23 (io), 12 GND (power), 13 X22 (io), 14 STB (in), 15 X21 (io), 16 VEE (power), 17 X20 (io), 18 Y1 (io), 19 Y2 (io), 20 Y4 (io), 21 NC., 22 NC., 23 NC., 24 X13 (io), 25 X12 (io), 26 X5 (io), 27 X4 (io), 28 X3 (io), 29 X2 (io), 30 X1 (io), 31 X0 (io), 32 NC., 33 X16 (io), 34 CS/CK (in), 35 X17 (io), 36 DAT (in), 37 X18 (io), 38 VDD (power), 39 X19 (io), 40 NC., 41 RST (in), 42 Y3 (io), 43 Y0 (io), 44 NC.

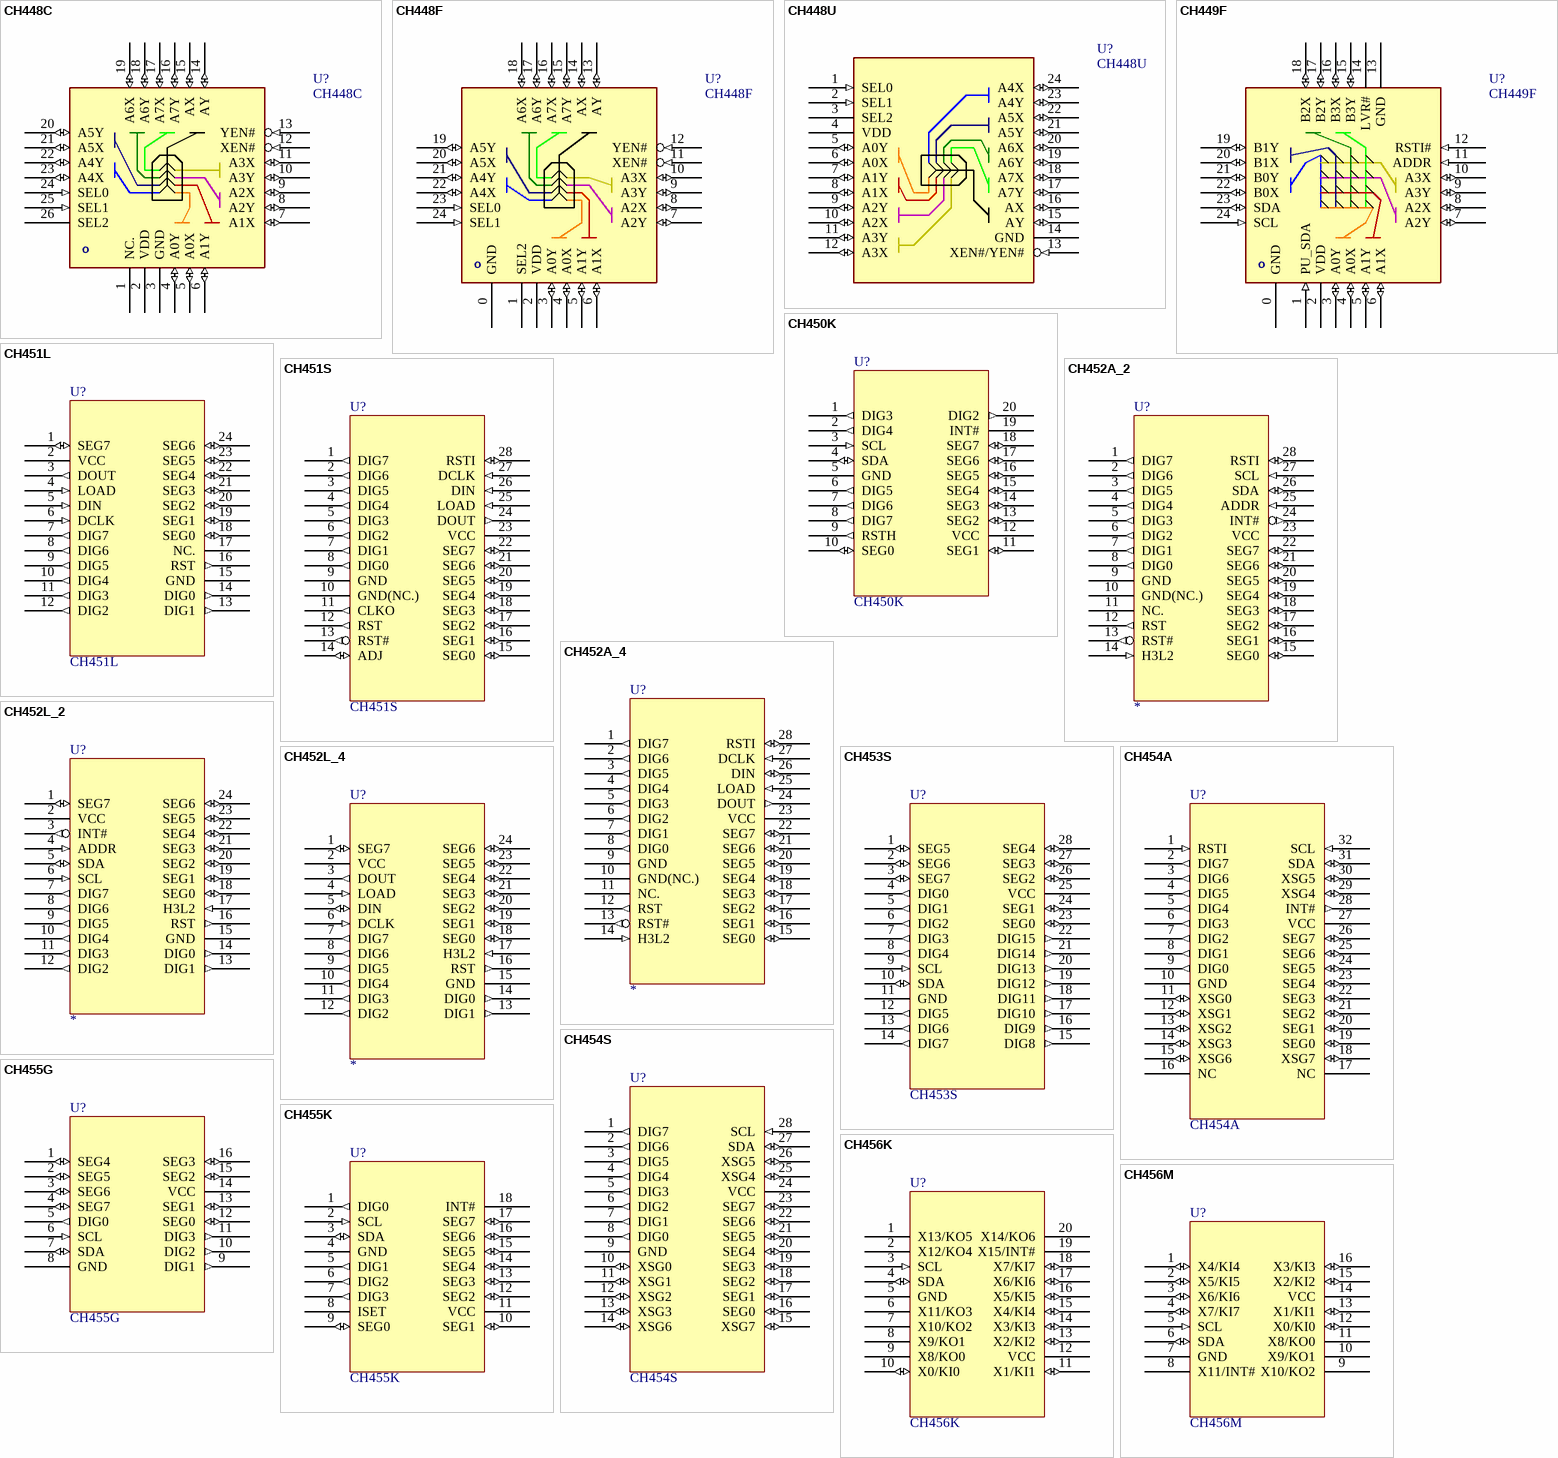
[diagram p45: symbols CH448C to CH456M]

## CH448C
designator U?
USB2.0 mux 8:1 / 16:1 Differential Switch, DPOT with dual enable
footprint QFN26C_3X3
pins: 1 NC., 2 VDD (power), 3 GND (power), 4 A0Y (io), 5 A0X (io), 6 A1Y (io), 7 A1X (io), 8 A2Y (io), 9 A2X (io), 10 A3Y (io), 11 A3X (io), 12 XEN# (in), 13 YEN# (in), 14 AY (io), 15 AX (io), 16 A7Y (io), 17 A7X (io), 18 A6Y (io), 19 A6X (io), 20 A5Y (io), 21 A5X (io), 22 A4Y (io), 23 A4X (io), 24 SEL0 (in), 25 SEL1 (in), 26 SEL2 (power)
text: o

## CH448F
designator U?
USB2.0 mux 8:1 / 16:1 Differential Switch, DPOT with dual enable
footprint QFN24_4X4
pins: 0 GND (power), 1 SEL2 (power), 2 VDD (power), 3 A0Y (io), 4 A0X (io), 5 A1Y (io), 6 A1X (io), 7 A2Y (io), 8 A2X (io), 9 A3Y (io), 10 A3X (io), 11 XEN# (in), 12 YEN# (in), 13 AY (io), 14 AX (io), 15 A7Y (io), 16 A7X (io), 17 A6Y (io), 18 A6X (io), 19 A5Y (io), 20 A5X (io), 21 A4Y (io), 22 A4X (io), 23 SEL0 (in), 24 SEL1 (in)
text: o

## CH448U
designator U?
USB2.0 mux 8:1 Differential Switch, DPOT with enable
footprint QSOP24 (Footprint not found)
pins: 1 SEL0 (in), 2 SEL1 (in), 3 SEL2 (power), 4 VDD (power), 5 A0Y (io), 6 A0X (io), 7 A1Y (io), 8 A1X (io), 9 A2Y (io), 10 A2X (io), 11 A3Y (io), 12 A3X (io), 13 XEN#/YEN# (in), 14 GND (power), 15 AY (io), 16 AX (io), 17 A7Y (io), 18 A7X (io), 19 A6Y (io), 20 A6X (io), 21 A5Y (io), 22 A5X (io), 23 A4Y (io), 24 A4X (io)

## CH449F
designator U?
USB2.0 4x4 Analog Differential Switch Matrix, QXQX
footprint QFN24_4X4
pins: 0 GND (power), 1 PU_SDA (in), 2 VDD (power), 3 A0Y (io), 4 A0X (io), 5 A1Y (io), 6 A1X (io), 7 A2Y (io), 8 A2X (io), 9 A3Y (io), 10 A3X (io), 11 ADDR (in), 12 RSTI# (in), 13 GND (power), 14 LVR# (oc), 15 B3Y (io), 16 B3X (io), 17 B2Y (io), 18 B2X (io), 19 B1Y (io), 20 B1X (io), 21 B0Y (io), 22 B0X (io), 23 SDA (io), 24 SCL (in)
text: o

## CH450K
designator U?
8-Seg * 6 Digits / 48 LEDs Drive & 8x6 Keyboard, I2C/IIC
footprint DIP20
footprint SOP20
pins: 1 DIG3 (out), 2 DIG4 (out), 3 SCL (in), 4 SDA (io), 5 GND (power), 6 DIG5 (out), 7 DIG6 (out), 8 DIG7 (out), 9 RSTH (out), 10 SEG0 (io), 11 SEG1 (io), 12 VCC (power), 13 SEG2 (io), 14 SEG3 (io), 15 SEG4 (io), 16 SEG5 (io), 17 SEG6 (io), 18 SEG7 (io), 19 INT# (oc), 20 DIG2 (out)

## CH451L
designator U?
8-Seg * 8 Digits / 64 LEDs Drive & 8x8 Keyboard, 4 Wire Interface, SPI
footprint DIP24S
pins: 1 SEG7 (io), 2 VCC (power), 3 DOUT (out), 4 LOAD (in), 5 DIN (in), 6 DCLK (in), 7 DIG7 (out), 8 DIG6 (out), 9 DIG5 (out), 10 DIG4 (out), 11 DIG3 (out), 12 DIG2 (out), 13 DIG1 (out), 14 DIG0 (out), 15 GND (power), 16 RST (out), 17 NC., 18 SEG0 (io), 19 SEG1 (io), 20 SEG2 (io), 21 SEG3 (io), 22 SEG4 (io), 23 SEG5 (io), 24 SEG6 (io)